# Altium integrated library Microcontroller V2.1 BVI.IntLib: 46 symbols
Pins are listed as number, name and electrical type; pins without a type are passive.

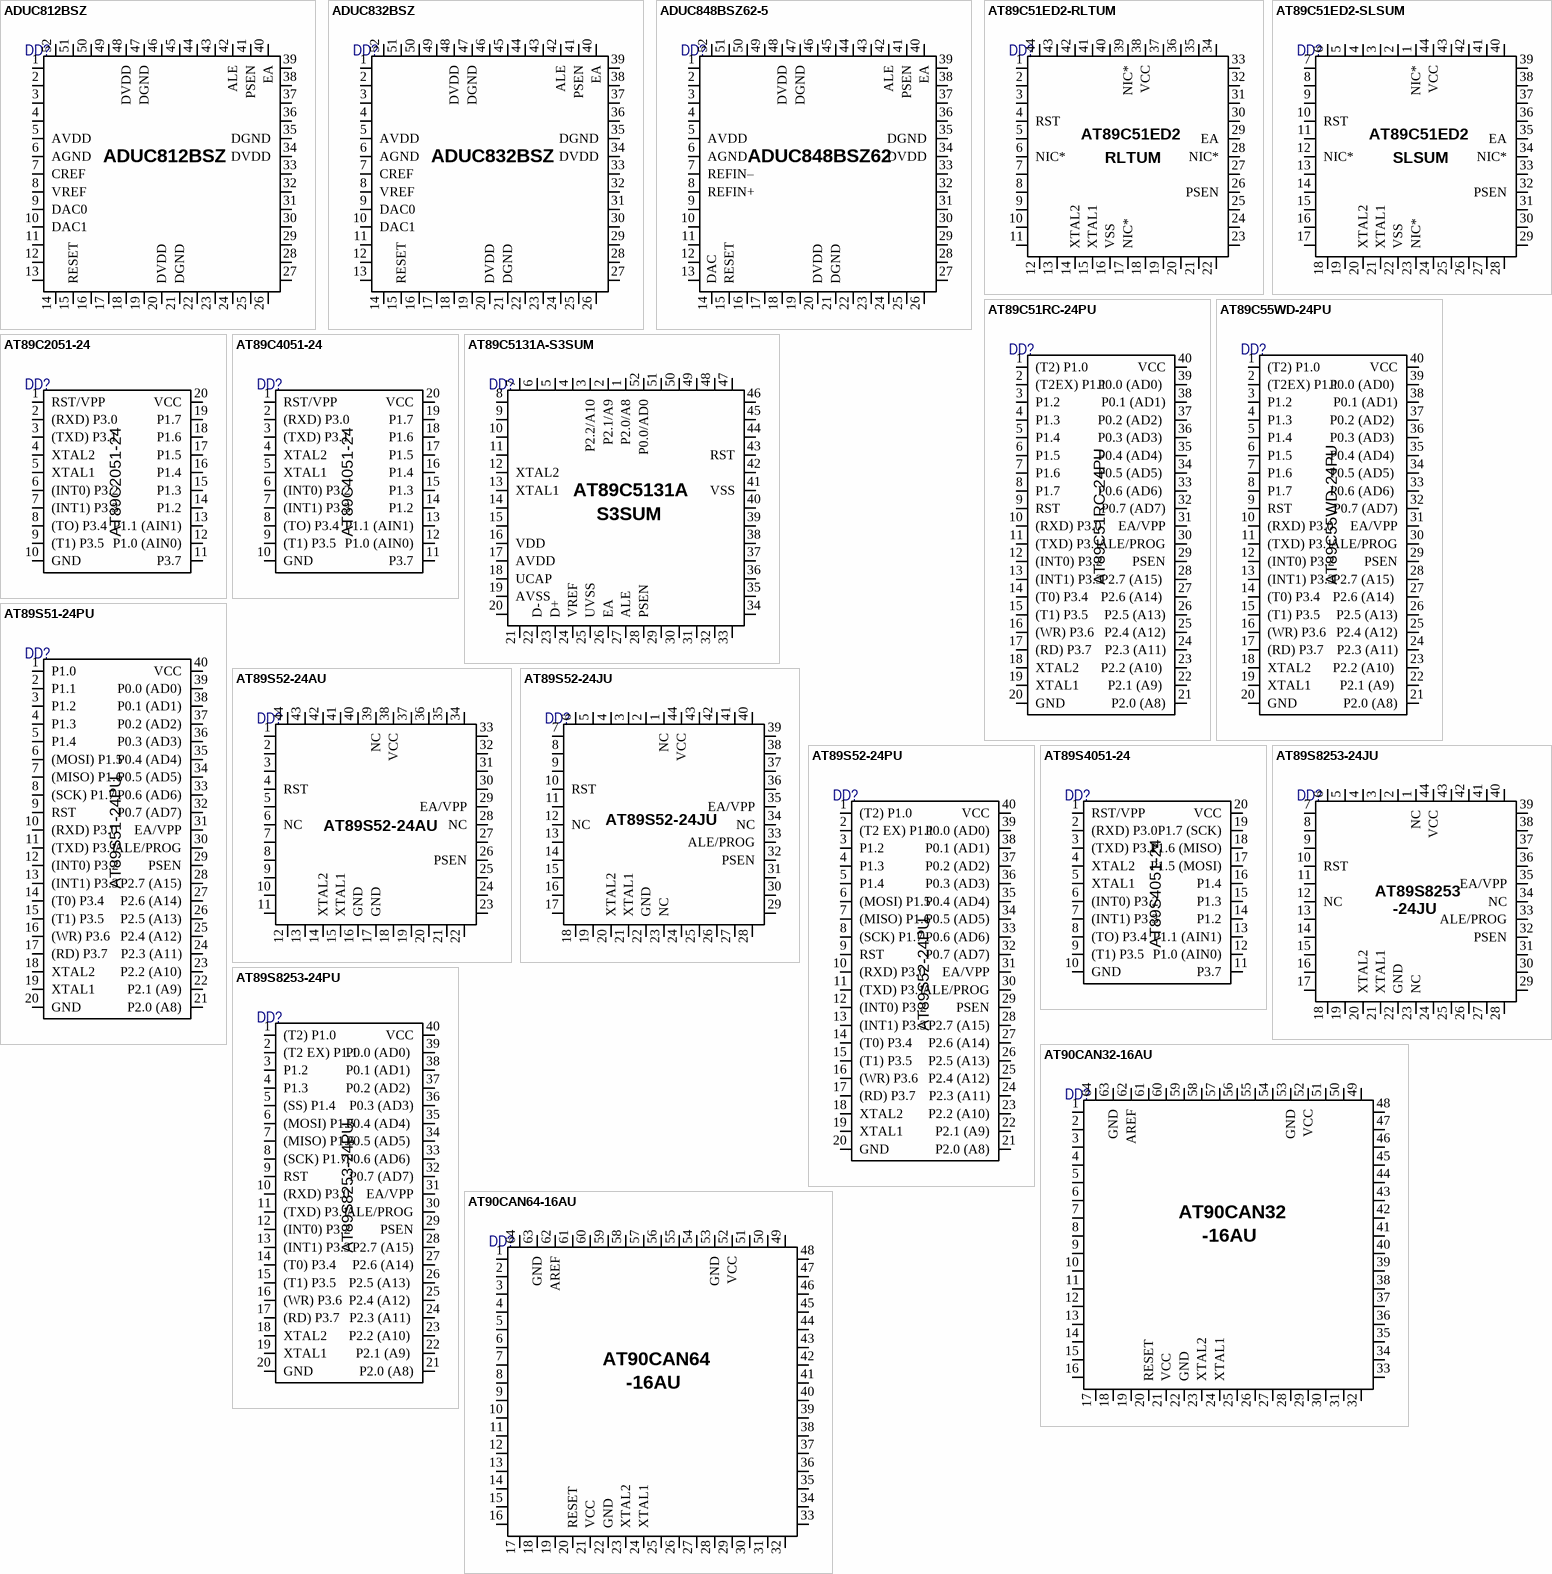
[diagram p0: symbols ADUC812BSZ to AT90CAN64-16AU]

## ADUC812BSZ
designator DD?  (value not drawn)
Микроконвертер   12-Bit ADC   8-bit ADuC8xx 8052 CISC 8KB Flash 3.3V/5V [MQFP-52]
footprint MQFP-52
pins: 1 P1.0/ADC0/T2 "*", 2 P1.1/ADC1/T2EX "*", 3 P1.2/ADC2 "*", 4 P1.3/ADC3 "*", 5 AVDD "*", 6 AGND "*", 7 CREF "*", 8 VREF "*", 9 DAC0 "*", 10 DAC1 "*", 11 P1.4/ADC4 "*", 12 P1.5/ADC5/SS "*", 13 P1.6/ADC6 "*", 14 P1.7/ADC7 "*", 15 RESET "*", 16 P3.0/RxD "*", 17 P3.1/TxD "*", 18 P3.2/INT0 "*", 19 P3.3/INT1/MISO "*", 20 DVDD "*", 21 DGND "*", 22 P3.4/T0 "*", 23 P3.5/T1/CONVST "*", 24 P3.6/WR "*", 25 P3.7/RD "*", 26 SCLOCK/D0  "*", 27 SDATA/MOSI "*", 28 P2.0/A8/A16 "*", 29 P2.1/A9/A17 "*", 30 P2.2/A10/A18 "*", 31 P2.3/A11/A19 "*", 32 XTAL1 "*", 33 XTAL2 "*", 34 DVDD "*", 35 DGND "*", 36 P2.4/A12/A20 "*", 37 P2.5/A13/A21 "*", 38 P2.6/A14/A22 "*", 39 P2.7/A15/A23 "*", 40 EA "*", 41 PSEN "*", 42 ALE "*", 43 P0.0/AD0 "*", 44 P0.1/AD1 "*", 45 P0.2/AD2 "*", 46 P0.3/AD3 "*", 47 DGND "*", 48 DVDD "*", 49 P0.4/AD4 "*", 50 P0.5/AD5 "*", 51 P0.6/AD6 "*", 52 P0.7/AD7 "*"

## ADUC832BSZ
designator DD?  (value not drawn)
Микроконвертер   12-Bit ADCs and DACs   8-bit ADuC8xx 8052 CISC 62KB Flash 3.3V/5V [MQFP-52]
footprint MQFP-52
pins: 1 P1.0/ADC0/T2 "*", 2 P1.1/ADC1/T2EX "*", 3 P1.2/ADC2 "*", 4 P1.3/ADC3 "*", 5 AVDD "*", 6 AGND "*", 7 CREF "*", 8 VREF "*", 9 DAC0 "*", 10 DAC1 "*", 11 P1.4/ADC4 "*", 12 P1.5/ADC5/SS "*", 13 P1.6/ADC6 "*", 14 P1.7/ADC7 "*", 15 RESET "*", 16 P3.0/RxD "*", 17 P3.1/TxD "*", 18 P3.2/INT0 "*", 19 P3.3/INT1/MISO/PWM1 "*", 20 DVDD "*", 21 DGND "*", 22 P3.4/T0/PWMC/PWM0/EXTCLK "*", 23 P3.5/T1/CONVST "*", 24 P3.6/WR "*", 25 P3.7/RD "*", 26 SCLOCK "*", 27 SDATA/MOSI "*", 28 P2.0/A8/A16 "*", 29 P2.1/A9/A17 "*", 30 P2.2/A10/A18 "*", 31 P2.3/A11/A19 "*", 32 XTAL1 "*", 33 XTAL2 "*", 34 DVDD "*", 35 DGND "*", 36 P2.4/A12/A20 "*", 37 P2.5/A13/A21 "*", 38 P2.6/PWM0/A14/A22 "*", 39 P2.7/PWM1/A15/A23 "*", 40 EA "*", 41 PSEN "*", 42 ALE "*", 43 P0.0/AD0 "*", 44 P0.1/AD1 "*", 45 P0.2/AD2 "*", 46 P0.3/AD3 "*", 47 DGND "*", 48 DVDD "*", 49 P0.4/AD4 "*", 50 P0.5/AD5 "*", 51 P0.6/AD6 "*", 52 P0.7/AD7 "*"

## ADUC848BSZ62-5
designator DD?  (value not drawn)
Мультиканальный 16-бит АЦП с встроенной 62 kB Flash и Single-Cycle MCU [MQFP-52]
footprint MQFP-52
pins: 1 P1.0/AIN1 "*", 2 P1.1/AIN2 "*", 3 P1.2/AIN3/REFIN2+ "*", 4 P1.3/AIN4/REFIN2– "*", 5 AVDD "*", 6 AGND "*", 7 REFIN– "*", 8 REFIN+ "*", 9 P1.4/AIN5 "*", 10 P1.5/AIN6 "*", 11 P1.6/AIN7/IEXC1 "*", 12 P1.7/AIN8/IEXC2 "*", 13 AINCOM/DAC  "*", 14 DAC "*", 15 RESET "*", 16 P3.0/RxD "*", 17 P3.1/TxD "*", 18 P3.2/INT0 "*", 19 P3.3/INT1 "*", 20 DVDD "*", 21 DGND "*", 22 P3.4/T0 "*", 23 P3.5/T1 "*", 24 P3.6/WR "*", 25 P3.7/RD "*", 26 SCLOCK (I2C) "*", 27 SDATA "*", 28 P2.0/SCLOCK (SPI) "*", 29 P2.1/MOSI "*", 30 P2.2/MISO "*", 31 P2.3/SS/T2 "*", 32 XTAL1 "*", 33 XTAL2 "*", 34 DVDD "*", 35 DGND "*", 36 P2.4/T2EX "*", 37 P2.5/PWM0 "*", 38 P2.6/PWM1 "*", 39 P2.7/PWMCLK "*", 40 EA "*", 41 PSEN "*", 42 ALE "*", 43 P0.0/AD0 "*", 44 P0.1/AD1 "*", 45 P0.2/AD2 "*", 46 P0.3/AD3 "*", 47 DGND "*", 48 DVDD "*", 49 P0.4/AD4 "*", 50 P0.5/AD5 "*", 51 P0.6/AD6 "*", 52 P0.7/AD7 "*"
text: ADUC848BSZ62

## AT89C51ED2-RLTUM
designator DD?  (value not drawn)
Микроконтроллер 8-Бит   8051   60МГц   64КБ Flash [VQFP-44]
footprint VQFP-44
pins: 1 P1.5/CEX2/MISO "*", 2 P1.6/CEX3/SCK "*", 3 P1.7/CEX4/MOSI "*", 4 RST "*", 5 P3.0/RxD "*", 6 NIC* "*", 7 P3.1/TxD "*", 8 P3.2/INT0 "*", 9 P3.3/INT1 "*", 10 P3.4/T0 "*", 11 P3.5/T1 "*", 12 P3.6/WR "*", 13 P3.7/RD "*", 14 XTAL2 "*", 15 XTAL1 "*", 16 VSS "*", 17 NIC* "*", 18 P2.0/A8 "*", 19 P2.1/A9 "*", 20 P2.2/A10 "*", 21 P2.3/A11 "*", 22 P2.4/A12 "*", 23 P2.5/A13 "*", 24 P2.6/A14 "*", 25 P2.7/A15  "*", 26 PSEN "*", 27 ALE/PROG "*", 28 NIC* "*", 29 EA "*", 30 P0.7/AD7  "*", 31 P0.6/AD6 "*", 32 P0.5/AD5 "*", 33 P0.4/AD4 "*", 34 P0.3/AD3 "*", 35 P0.2/AD2 "*", 36 P0.1/AD1 "*", 37 P0.0/AD0 "*", 38 VCC "*", 39 NIC* "*", 40 P1.0/T2 "*", 41 P1.1/T2EX/SS "*", 42 P1.2/ECI "*", 43 P1.3/CEX0 "*", 44 P1.4/CEX1 "*"
text: AT89C51ED2; RLTUM

## AT89C51ED2-SLSUM
designator DD?  (value not drawn)
Микроконтроллер 8-Бит   8051   60МГц   64КБ Flash [PLCC-44]
footprint PLCC-44
pins: 1 NIC* "*", 2 P1.0/T2 "*", 3 P1.1/T2EX/SS "*", 4 P1.2/ECI "*", 5 P1.3/CEX0 "*", 6 P1.4/CEX1 "*", 7 P1.5/CEX2/MISO "*", 8 P1.6/CEX3/SCK "*", 9 P1.7/CEx4/MOS "*", 10 RST "*", 11 P3.0/RxD "*", 12 NIC* "*", 13 P3.1/TxD "*", 14 P3.2/INT0 "*", 15 P3.3/INT1 "*", 16 P3.4/T0 "*", 17 P3.5/T1 "*", 18 P3.6/WR "*", 19 P3.7/RD "*", 20 XTAL2 "*", 21 XTAL1 "*", 22 VSS "*", 23 NIC* "*", 24 P2.0/A8 "*", 25 P2.1/A9 "*", 26 P2.2/A10 "*", 27 P2.3/A11 "*", 28 P2.4/A12 "*", 29 P2.5/A13  "*", 30 P2.6/A14  "*", 31 P2.7/A15  "*", 32 PSEN "*", 33 ALE/PROG "*", 34 NIC* "*", 35 EA "*", 36 P0.7/AD7  "*", 37 P0.6/AD6 "*", 38 P0.5/AD5  "*", 39 P0.4/AD4  "*", 40 P0.3/AD3 "*", 41 P0.2/AD2 "*", 42 P0.1/AD1 "*", 43 P0.0/AD0 "*", 44 VCC "*"
text: AT89C51ED2; SLSUM

## AT89C51RC-24PU
designator DD?  (value not drawn)
Микроконтроллер 8-Бит   8051   24МГц   32КБ Flash [DIP-40]
footprint DIP-40  (600)
pins: 1 (T2) P1.0 "*", 2 (T2EX) P1.1 "*", 3 P1.2 "*", 4 P1.3 "*", 5 P1.4 "*", 6 P1.5 "*", 7 P1.6 "*", 8 P1.7 "*", 9 RST "*", 10 (RXD) P3.0 "*", 11 (TXD) P3.1 "*", 12 (INT0) P3.2 "*", 13 (INT1) P3.3 "*", 14 (T0) P3.4 "*", 15 (T1) P3.5 "*", 16 (WR) P3.6 "*", 17 (RD) P3.7 "*", 18 XTAL2 "*", 19 XTAL1  "*", 20 GND "*", 21 P2.0 (A8) "*", 22 P2.1 (A9)  "*", 23 P2.2 (A10)  "*", 24 P2.3 (A11) "*", 25 P2.4 (A12) "*", 26 P2.5 (A13) "*", 27 P2.6 (A14)  "*", 28 P2.7 (A15)  "*", 29 PSEN "*", 30 ALE/PROG "*", 31 EA/VPP "*", 32 P0.7 (AD7) "*", 33 P0.6 (AD6)  "*", 34 P0.5 (AD5)  "*", 35 P0.4 (AD4)  "*", 36 P0.3 (AD3)  "*", 37 P0.2 (AD2)  "*", 38 P0.1 (AD1) "*", 39 P0.0 (AD0)  "*", 40 VCC "*"

## AT89C55WD-24PU
designator DD?  (value not drawn)
Микроконтроллер 8-Бит   8051   24МГц   20КБ Flash [DIP-40]
footprint DIP-40  (600)
pins: 1 (T2) P1.0 "*", 2 (T2EX) P1.1 "*", 3 P1.2 "*", 4 P1.3 "*", 5 P1.4 "*", 6 P1.5 "*", 7 P1.6 "*", 8 P1.7 "*", 9 RST "*", 10 (RXD) P3.0 "*", 11 (TXD) P3.1 "*", 12 (INT0) P3.2 "*", 13 (INT1) P3.3 "*", 14 (T0) P3.4 "*", 15 (T1) P3.5 "*", 16 (WR) P3.6 "*", 17 (RD) P3.7 "*", 18 XTAL2 "*", 19 XTAL1  "*", 20 GND "*", 21 P2.0 (A8) "*", 22 P2.1 (A9)  "*", 23 P2.2 (A10)  "*", 24 P2.3 (A11) "*", 25 P2.4 (A12) "*", 26 P2.5 (A13) "*", 27 P2.6 (A14)  "*", 28 P2.7 (A15)  "*", 29 PSEN "*", 30 ALE/PROG "*", 31 EA/VPP "*", 32 P0.7 (AD7) "*", 33 P0.6 (AD6)  "*", 34 P0.5 (AD5)  "*", 35 P0.4 (AD4)  "*", 36 P0.3 (AD3)  "*", 37 P0.2 (AD2)  "*", 38 P0.1 (AD1) "*", 39 P0.0 (AD0)  "*", 40 VCC "*"

## AT89C2051-24
designator DD?  (value not drawn)
Микроконтроллер 8-Бит   8051   24МГц   2КБ Flash
footprint DIP-20 (300) (PDIP)
footprint SO-20 (300") (SOIC-20 (300"))
pins: 1 RST/VPP "*", 2 (RXD) P3.0 "*", 3 (TXD) P3.1 "*", 4 XTAL2  "*", 5 XTAL1 "*", 6 (INT0) P3.2 "*", 7 (INT1) P3.3 "*", 8 (TO) P3.4 "*", 9 (T1) P3.5 "*", 10 GND "*", 11 P3.7 "*", 12 P1.0 (AIN0) "*", 13 P1.1 (AIN1) "*", 14 P1.2 "*", 15 P1.3 "*", 16 P1.4 "*", 17 P1.5 "*", 18 P1.6 "*", 19 P1.7 "*", 20 VCC "*"

## AT89C4051-24
designator DD?  (value not drawn)
Микроконтроллер 8-Бит   8051   24МГц   4КБ Flash
footprint DIP-20 (300) (PDIP)
footprint SO-20 (300") (SOIC-20 (300"))
pins: 1 RST/VPP "*", 2 (RXD) P3.0 "*", 3 (TXD) P3.1 "*", 4 XTAL2  "*", 5 XTAL1 "*", 6 (INT0) P3.2 "*", 7 (INT1) P3.3 "*", 8 (TO) P3.4 "*", 9 (T1) P3.5 "*", 10 GND "*", 11 P3.7 "*", 12 P1.0 (AIN0) "*", 13 P1.1 (AIN1) "*", 14 P1.2 "*", 15 P1.3 "*", 16 P1.4 "*", 17 P1.5 "*", 18 P1.6 "*", 19 P1.7 "*", 20 VCC "*"

## AT89C5131A-S3SUM
designator DD?  (value not drawn)
Микроконтроллер 8-Бит   80C52X2   48МГц   32КБ Flash [PLCC-52]
footprint PLCC-52
pins: 1 P2.0/A8 "*", 2 P2.1/A9 "*", 3 P2.2/A10 "*", 4 P1.5/CEX2/KIN5/MISO "*", 5 P1.6/CEX3/KIN6/SCK "*", 6 P1.7/CEX4/KIN7/MOSI "*", 7 P4.0/SCL "*", 8 P4.1/SDA "*", 9 P2.3/A11  "*", 10 P2.4/A12 "*", 11 P2.5/A13 "*", 12 XTAL2  "*", 13 XTAL1 "*", 14 P2.6/A14 "*", 15 P2.7/A15 "*", 16 VDD "*", 17 AVDD "*", 18 UCAP "*", 19 AVSS "*", 20 P3.0/RxD "*", 21 PLLF "*", 22 D- "*", 23 D+ "*", 24 VREF "*", 25 UVSS "*", 26 EA "*", 27 ALE "*", 28 PSEN "*", 29 P3.1/TxD "*", 30 P3.2/INT0 "*", 31 P3.3/INT1/LED0 "*", 32 P3.4/T0 "*", 33 P3.5/T1/LED1 "*", 34 NC "*", 35 P3.6/WR/LED2 "*", 36 P0.7/AD7 "*", 37 P0.6/AD6 "*", 38 P0.5/AD5 "*", 39 P3.7/RD/LED3 "*", 40 P0.4/AD4 "*", 41 VSS "*", 42 P0.3/AD3 "*", 43 RST "*", 44 P0.2/AD2 "*", 45 P0.1/AD1 "*", 46 NC "*", 47 P1.0/T2/KIN0 "*", 48 P1.1/T2EX/KIN1/SS "*", 49 P1.2/ECI/KIN2 "*", 50 P1.3/CEX0/KIN3 "*", 51 P1.4/CEX1/KIN4 "*", 52 P0.0/AD0 "*"
text: AT89C5131A; S3SUM

## AT89S51-24PU
designator DD?  (value not drawn)
Микроконтроллер 8-Бит   8051   24МГц   4КБ Flash   [DIP-40]
footprint DIP-40  (600)
pins: 1 P1.0 "*", 2 P1.1 "*", 3 P1.2 "*", 4 P1.3 "*", 5 P1.4 "*", 6 (MOSI) P1.5 "*", 7 (MISO) P1.6 "*", 8 (SCK) P1.7 "*", 9 RST "*", 10 (RXD) P3.0 "*", 11 (TXD) P3.1 "*", 12 (INT0) P3.2 "*", 13 (INT1) P3.3 "*", 14 (T0) P3.4 "*", 15 (T1) P3.5 "*", 16 (WR) P3.6 "*", 17 (RD) P3.7  "*", 18 XTAL2 "*", 19 XTAL1 "*", 20 GND "*", 21 P2.0 (A8) "*", 22 P2.1 (A9) "*", 23 P2.2 (A10) "*", 24 P2.3 (A11) "*", 25 P2.4 (A12) "*", 26 P2.5 (A13) "*", 27 P2.6 (A14) "*", 28 P2.7 (A15) "*", 29 PSEN "*", 30 ALE/PROG "*", 31 EA/VPP "*", 32 P0.7 (AD7) "*", 33 P0.6 (AD6) "*", 34 P0.5 (AD5) "*", 35 P0.4 (AD4) "*", 36 P0.3 (AD3) "*", 37 P0.2 (AD2) "*", 38 P0.1 (AD1) "*", 39 P0.0 (AD0) "*", 40 VCC "*"

## AT89S52-24AU
designator DD?  (value not drawn)
Микроконтроллер 8-Бит   8051   24МГц   8КБ Flash [TQFP-44]
footprint TQFP-44
pins: 1 (MOSI) P1.5 "*", 2 (MISO) P1.6 "*", 3 (SCK) P1.7 "*", 4 RST "*", 5 (RXD) P3.0 "*", 6 NC "*", 7 (TXD) P3.1 "*", 8 (INT0) P3.2 "*", 9 (INT1) P3.3 "*", 10 (T0) P3.4 "*", 11 (T1) P3.5 "*", 12 (WR) P3.6 "*", 13 (RD) P3.7 "*", 14 XTAL2 "*", 15 XTAL1 "*", 16 GND "*", 17 GND "*", 18 (A8) P2.0 "*", 19 (A9) P2.1 "*", 20 (A10) P2.2 "*", 21 (A11) P2.3 "*", 22 (A12) P2.4 "*", 23 P2.5 (A13) "*", 24 P2.6 (A14) "*", 25 P2.7 (A15) "*", 26 PSEN "*", 27 ALE/PROG "*", 28 NC "*", 29 EA/VPP "*", 30 P0.7 (AD7) "*", 31 P0.6 (AD6) "*", 32 P0.5 (AD5) "*", 33 P0.4 (AD4) "*", 34 P0.3 (AD3) "*", 35 P0.2 (AD2) "*", 36 P0.1 (AD1) "*", 37 P0.0 (AD0) "*", 38 VCC "*", 39 NC "*", 40 P1.0 (T2) "*", 41 P1.1 (T2 EX) "*", 42 P1.2 "*", 43 P1.3 "*", 44 P1.4 "*"

## AT89S52-24JU
designator DD?  (value not drawn)
Микроконтроллер 8-Бит   8051   24МГц   8КБ Flash [PLCC-44]
footprint PLCC-44
pins: 1 NC "*", 2 P1.0 (T2) "*", 3 P1.1 (T2 EX) "*", 4 P1.2 "*", 5 P1.3 "*", 6 P1.4 "*", 7 (MOSI) P1.5 "*", 8 (MISO) P1.6 "*", 9 (SCK) P1.7 "*", 10 RST "*", 11 (RXD) P3.0 "*", 12 NC "*", 13 (TXD) P3.1 "*", 14 (INT0) P3.2 "*", 15 (INT1) P3.3 "*", 16 (T0) P3.4 "*", 17 (T1) P3.5 "*", 18 (WR) P3.6 "*", 19 (RD) P3.7 "*", 20 XTAL2 "*", 21 XTAL1 "*", 22 GND "*", 23 NC "*", 24 (A8) P2.0 "*", 25 (A9) P2.1 "*", 26 (A10) P2.2 "*", 27 (A11) P2.3 "*", 28 (A12) P2.4 "*", 29 P2.5 (A13) "*", 30 P2.6 (A14) "*", 31 P2.7 (A15) "*", 32 PSEN "*", 33 ALE/PROG "*", 34 NC "*", 35 EA/VPP "*", 36 P0.7 (AD7) "*", 37 P0.6 (AD6) "*", 38 P0.5 (AD5) "*", 39 P0.4 (AD4) "*", 40 P0.3 (AD3) "*", 41 P0.2 (AD2) "*", 42 P0.1 (AD1) "*", 43 P0.0 (AD0) "*", 44 VCC "*"

## AT89S52-24PU
designator DD?  (value not drawn)
Микроконтроллер 8-Бит   8051   24МГц   8КБ Flash [DIP-40]
footprint DIP-40  (600)
pins: 1 (T2) P1.0 "*", 2 (T2 EX) P1.1 "*", 3 P1.2 "*", 4 P1.3 "*", 5 P1.4 "*", 6 (MOSI) P1.5 "*", 7 (MISO) P1.6 "*", 8 (SCK) P1.7 "*", 9 RST "*", 10 (RXD) P3.0 "*", 11 (TXD) P3.1  "*", 12 (INT0) P3.2 "*", 13 (INT1) P3.3 "*", 14 (T0) P3.4 "*", 15 (T1) P3.5 "*", 16 (WR) P3.6 "*", 17 (RD) P3.7 "*", 18 XTAL2 "*", 19 XTAL1  "*", 20 GND "*", 21 P2.0 (A8) "*", 22 P2.1 (A9) "*", 23 P2.2 (A10) "*", 24 P2.3 (A11) "*", 25 P2.4 (A12) "*", 26 P2.5 (A13) "*", 27 P2.6 (A14) "*", 28 P2.7 (A15) "*", 29 PSEN "*", 30 ALE/PROG "*", 31 EA/VPP "*", 32 P0.7 (AD7) "*", 33 P0.6 (AD6) "*", 34 P0.5 (AD5) "*", 35 P0.4 (AD4) "*", 36 P0.3 (AD3) "*", 37 P0.2 (AD2) "*", 38 P0.1 (AD1) "*", 39 P0.0 (AD0) "*", 40 VCC "*"

## AT89S4051-24
designator DD?  (value not drawn)
Микроконтроллер 8-Бит   8051   24МГц   4КБ Flash
footprint DIP-20 (300) (PDIP)
footprint SO-20 (300") (SOIC-20 (300"))
pins: 1 RST/VPP "*", 2 (RXD) P3.0 "*", 3 (TXD) P3.1 "*", 4 XTAL2  "*", 5 XTAL1 "*", 6 (INT0) P3.2 "*", 7 (INT1) P3.3 "*", 8 (TO) P3.4 "*", 9 (T1) P3.5 "*", 10 GND "*", 11 P3.7 "*", 12 P1.0 (AIN0) "*", 13 P1.1 (AIN1) "*", 14 P1.2 "*", 15 P1.3 "*", 16 P1.4 "*", 17 P1.5 (MOSI) "*", 18 P1.6 (MISO) "*", 19 P1.7 (SCK) "*", 20 VCC "*"

## AT89S8253-24JU
designator DD?  (value not drawn)
Микроконтроллер 8-Бит   8051   24МГц   12КБ Flash [PLCC-44]
footprint PLCC-44
pins: 1 NC "*", 2 P1.0 (T2) "*", 3 P1.1 (T2 EX) "*", 4 P1.2 "*", 5 P1.3 "*", 6 P1.4 (SS) "*", 7 (MOSI) P1.5 "*", 8 (MISO) P1.6 "*", 9 (SCK) P1.7  "*", 10 RST "*", 11 (RXD) P3.0 "*", 12 NC "*", 13 (TXD) P3.1 "*", 14 (INT0) P3.2 "*", 15 (INT1) P3.3 "*", 16 (T0) P3.4 "*", 17 (T1) P3.5 "*", 18 (WR) P3.6 "*", 19 (RD) P3.7 "*", 20 XTAL2 "*", 21 XTAL1 "*", 22 GND "*", 23 NC "*", 24 (A8) P2.0 "*", 25 (A9) P2.1 "*", 26 (A10) P2.2 "*", 27 (A11) P2.3 "*", 28 (A12) P2.4 "*", 29 P2.5 (A13) "*", 30 P2.6 (A14) "*", 31 P2.7 (A15) "*", 32 PSEN "*", 33 ALE/PROG "*", 34 NC "*", 35 EA/VPP "*", 36 P0.7 (AD7) "*", 37 P0.6 (AD6) "*", 38 P0.5 (AD5) "*", 39 P0.4 (AD4) "*", 40 P0.3 (AD3)  "*", 41 P0.2 (AD2) "*", 42 P0.1 (AD1) "*", 43 P0.0 (AD0) "*", 44 VCC "*"
text: AT89S8253; -24JU

## AT89S8253-24PU
designator DD?  (value not drawn)
Микроконтроллер 8-Бит   8051   24МГц   12КБ Flash [DIP-40]
footprint DIP-40  (600)
pins: 1 (T2) P1.0 "*", 2 (T2 EX) P1.1  "*", 3 P1.2 "*", 4 P1.3 "*", 5 (SS) P1.4 "*", 6 (MOSI) P1.5  "*", 7 (MISO) P1.6 "*", 8 (SCK) P1.7 "*", 9 RST "*", 10 (RXD) P3.0 "*", 11 (TXD) P3.1 "*", 12 (INT0) P3.2 "*", 13 (INT1) P3.3 "*", 14 (T0) P3.4 "*", 15 (T1) P3.5 "*", 16 (WR) P3.6 "*", 17 (RD) P3.7 "*", 18 XTAL2 "*", 19 XTAL1 "*", 20 GND "*", 21 P2.0 (A8) "*", 22 P2.1 (A9)  "*", 23 P2.2 (A10)  "*", 24 P2.3 (A11)  "*", 25 P2.4 (A12)  "*", 26 P2.5 (A13)  "*", 27 P2.6 (A14) "*", 28 P2.7 (A15) "*", 29 PSEN "*", 30 ALE/PROG "*", 31 EA/VPP "*", 32 P0.7 (AD7) "*", 33 P0.6 (AD6)  "*", 34 P0.5 (AD5)  "*", 35 P0.4 (AD4)  "*", 36 P0.3 (AD3) "*", 37 P0.2 (AD2)  "*", 38 P0.1 (AD1)  "*", 39 P0.0 (AD0)  "*", 40 VCC "*"

## AT90CAN32-16AU
designator DD?  (value not drawn)
Микроконтроллер 8-Бит   AVR   16МГц   32КБ Flash   с CAN контроллером [TQFP-64]
footprint TQFP-64
pins: 1 NC "*", 2 (RXD0 / PDI) PE0 "*", 3 (TXD0 / PDO) PE1 "*", 4 (XCK0 / AIN0) PE2 "*", 5 (OC3A / AIN1) PE3 "*", 6 (OC3B / INT4) PE4 "*", 7 (OC3C / INT5) PE5 "*", 8 (T3 / INT6) PE6 "*", 9 (ICP3 / INT7) PE7  "*", 10 (SS) PB0  "*", 11 (SCK) PB1  "*", 12 (MOSI) PB2 "*", 13 (MISO) PB3 "*", 14 (OC2A) PB4 "*", 15 (OC1A) PB5 "*", 16 (OC1B) PB6 "*", 17 (OC0A / OC1C) PB7 "*", 18 (TOSC2 ) PG3 "*", 19 (TOSC1 ) PG4 "*", 20 RESET "*", 21 VCC "*", 22 GND "*", 23 XTAL2 "*", 24 XTAL1 "*", 25 (SCL / INT0) PD0 "*", 26 (SDA / INT1) PD1 "*", 27 (RXD1 / INT2) PD2 "*", 28 (TXD1 / INT3) PD3 "*", 29  (ICP1) PD4 "*", 30 (TXCAN / XCK1) PD5 "*", 31 (RXCAN / T1) PD6 "*", 32 (T0) PD7 "*", 33 PG0 (WR) "*", 34 PG1 (RD) "*", 35 PC0 (A8) "*", 36 PC1 (A9) "*", 37 PC2 (A10) "*", 38 PC3 (A11) "*", 39 PC4 (A12) "*", 40 PC5 (A13) "*", 41 PC6 (A14) "*", 42 PC7 (A15 / CLKO) "*", 43 PG2 (ALE) "*", 44 PA7 (AD7) "*", 45 PA6 (AD6) "*", 46 PA5 (AD5) "*", 47 PA4 (AD4) "*", 48 PA3 (AD3) "*", 49 PA2 (AD2) "*", 50 PA1 (AD1) "*", 51 PA0 (AD0) "*", 52 VCC "*", 53 GND "*", 54 PF7 (ADC7 / TDI) "*", 55 PF6 (ADC6 / TDO) "*", 56 PF5 (ADC5 / TMS) "*", 57 PF4 (ADC4 / TCK) "*", 58 PF3 (ADC3) "*", 59 PF2 (ADC2) "*", 60 PF1 (ADC1) "*", 61 PF0 (ADC0) "*", 62 AREF "*", 63 GND "*", 64 AVCC "*"
text: AT90CAN32; -16AU

## AT90CAN64-16AU
designator DD?  (value not drawn)
Микроконтроллер 8-Бит   AVR   16МГц     64КБ Flash   с  CAN контроллером [TQFP-64]
footprint TQFP-64
pins: 1 NC "*", 2 (RXD0 / PDI) PE0 "*", 3 (TXD0 / PDO) PE1  "*", 4 (XCK0 / AIN0) PE2  "*", 5 (OC3A / AIN1) PE3 "*", 6 (OC3B / INT4) PE4  "*", 7  (OC3C / INT5) PE5 "*", 8 (T3 / INT6) PE6 "*", 9 (ICP3 / INT7) PE7 "*", 10 (SS) PB0 "*", 11 (SCK) PB1 "*", 12 (MOSI) PB2 "*", 13 (MISO) PB3 "*", 14 (OC2A) PB4 "*", 15 (OC1A) PB5 "*", 16 (OC1B) PB6 "*", 17  (OC0A / OC1C) PB7 "*", 18 (TOSC2 ) PG3 "*", 19 (TOSC1 ) PG4  "*", 20 RESET "*", 21 VCC "*", 22 GND "*", 23 XTAL2 "*", 24 XTAL1 "*", 25 (SCL / INT0) PD0 "*", 26 (SDA / INT1) PD1 "*", 27 (RXD1 / INT2) PD2 "*", 28 (TXD1 / INT3) PD3 "*", 29 (ICP1) PD4 "*", 30 (TXCAN / XCK1) PD5 "*", 31 (RXCAN / T1) PD6 "*", 32 (T0) PD7 "*", 33 PG0 (WR) "*", 34 PG1 (RD) "*", 35 PC0 (A8)  "*", 36 PC1 (A9) "*", 37 PC2 (A10) "*", 38 PC3 (A11) "*", 39 PC4 (A12) "*", 40 PC5 (A13) "*", 41 PC6 (A14) "*", 42 PC7 (A15 / CLKO) "*", 43 PG2 (ALE) "*", 44 PA7 (AD7) "*", 45 PA6 (AD6) "*", 46 PA5 (AD5) "*", 47 PA4 (AD4) "*", 48 PA3 (AD3) "*", 49 PA2 (AD2) "*", 50 PA1 (AD1) "*", 51 PA0 (AD0) "*", 52 VCC "*", 53 GND "*", 54 PF7 (ADC7 / TDI) "*", 55 PF6 (ADC6 / TDO) "*", 56 PF5 (ADC5 / TMS) "*", 57 PF4 (ADC4 / TCK) "*", 58 PF3 (ADC3) "*", 59 PF2 (ADC2) "*", 60 PF1 (ADC1) "*", 61 PF0 (ADC0) "*", 62 AREF "*", 63 GND "*", 64 AVCC "*"
text: AT90CAN64; -16AU

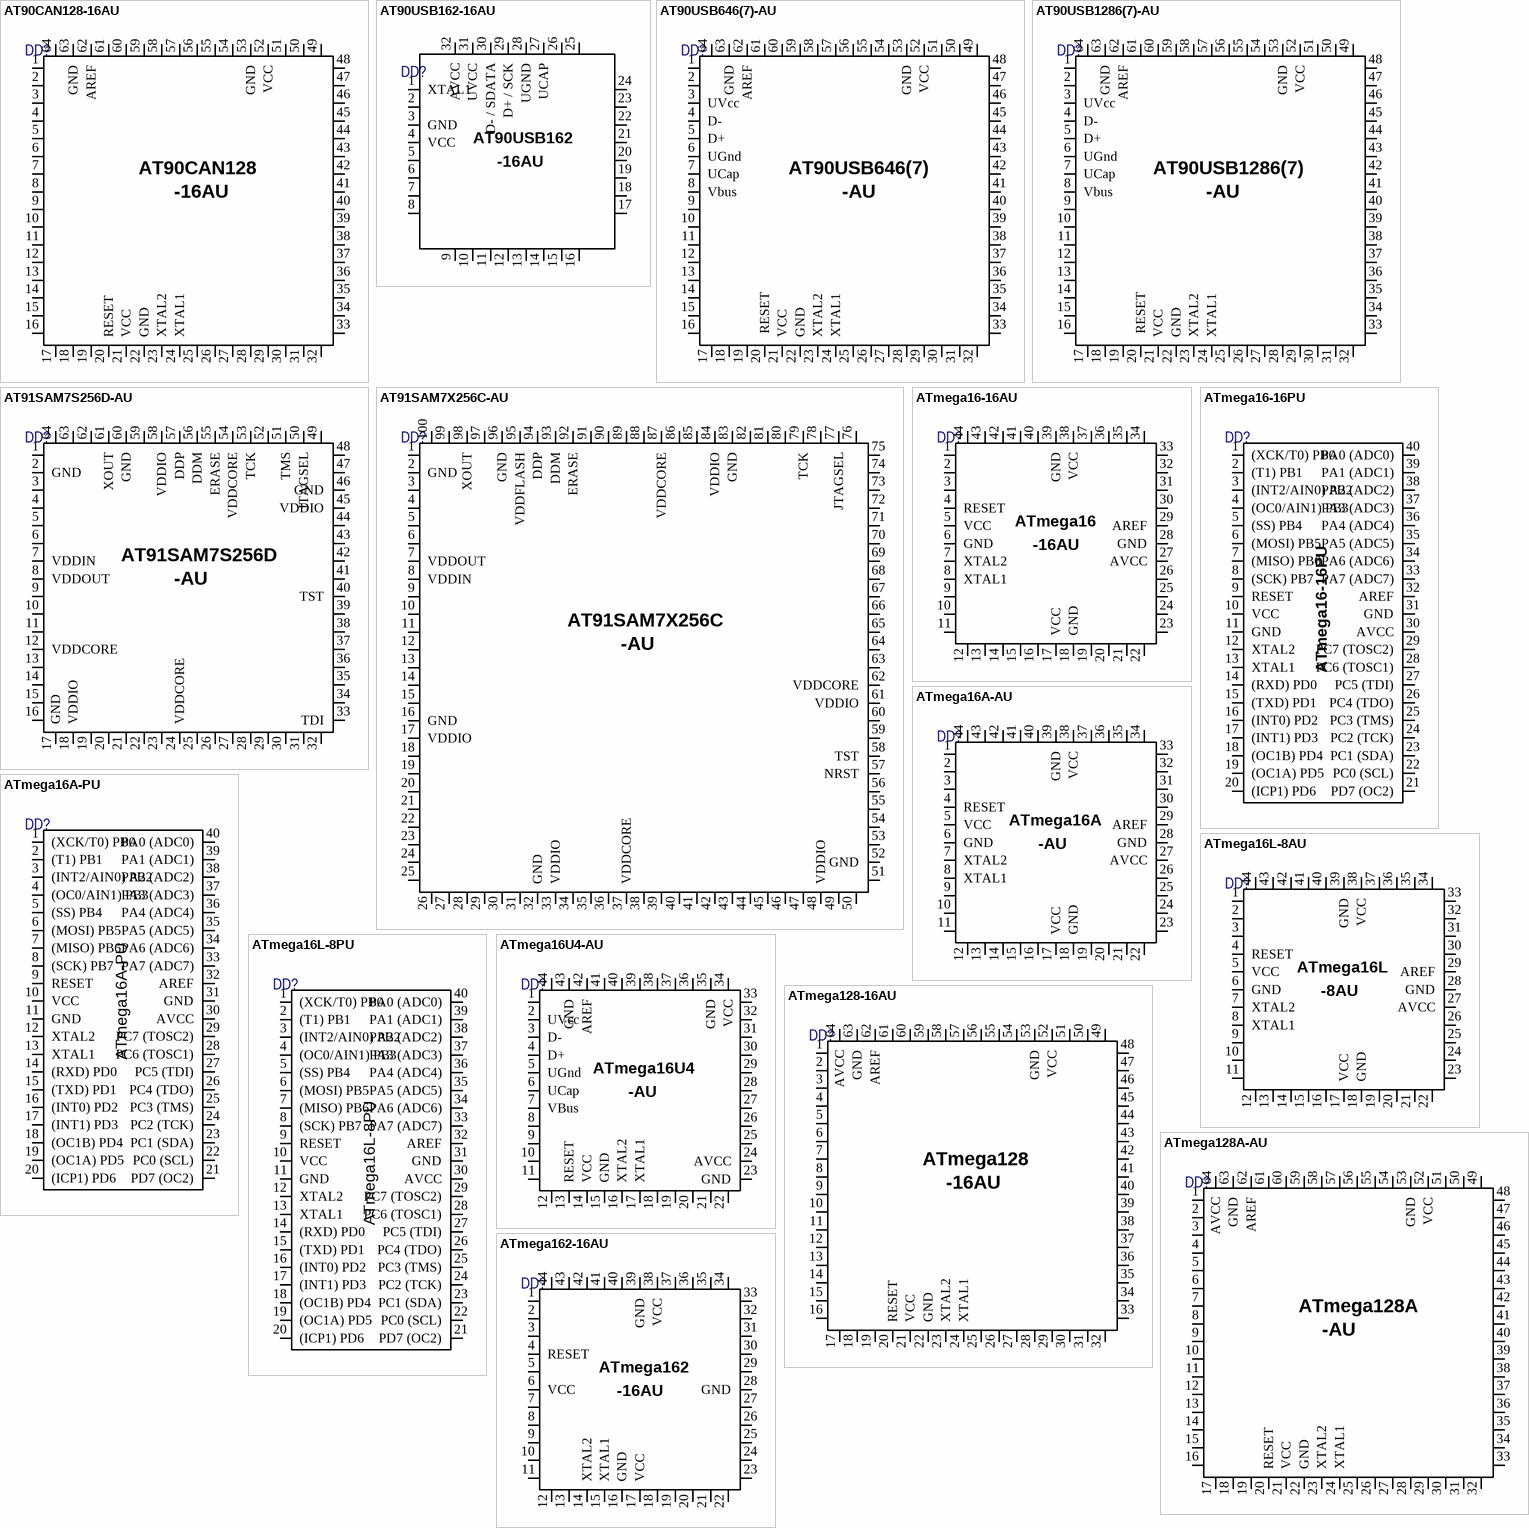
[diagram p1: symbols AT90CAN128-16AU to ATmega162-16AU]

## AT90CAN128-16AU
designator DD?  (value not drawn)
Микроконтроллер 8-Бит   AVR   16МГц   128КБ Flash   с CAN контроллером [TQFP-64]
footprint TQFP-64
pins: 1 NC "*", 2 (RXD0 / PDI) PE0 "*", 3 (TXD0 / PDO) PE1  "*", 4 (XCK0 / AIN0) PE2  "*", 5 (OC3A / AIN1) PE3 "*", 6 (OC3B / INT4) PE4  "*", 7  (OC3C / INT5) PE5 "*", 8 (T3 / INT6) PE6 "*", 9 (ICP3 / INT7) PE7 "*", 10 (SS) PB0 "*", 11 (SCK) PB1 "*", 12 (MOSI) PB2 "*", 13 (MISO) PB3 "*", 14 (OC2A) PB4 "*", 15 (OC1A) PB5 "*", 16 (OC1B) PB6 "*", 17  (OC0A / OC1C) PB7 "*", 18 (TOSC2 ) PG3 "*", 19 (TOSC1 ) PG4  "*", 20 RESET "*", 21 VCC "*", 22 GND "*", 23 XTAL2 "*", 24 XTAL1 "*", 25 (SCL / INT0) PD0 "*", 26 (SDA / INT1) PD1 "*", 27 (RXD1 / INT2) PD2 "*", 28 (TXD1 / INT3) PD3 "*", 29 (ICP1) PD4 "*", 30 (TXCAN / XCK1) PD5 "*", 31 (RXCAN / T1) PD6 "*", 32 (T0) PD7 "*", 33 PG0 (WR) "*", 34 PG1 (RD) "*", 35 PC0 (A8)  "*", 36 PC1 (A9) "*", 37 PC2 (A10) "*", 38 PC3 (A11) "*", 39 PC4 (A12) "*", 40 PC5 (A13) "*", 41 PC6 (A14) "*", 42 PC7 (A15 / CLKO) "*", 43 PG2 (ALE) "*", 44 PA7 (AD7) "*", 45 PA6 (AD6) "*", 46 PA5 (AD5) "*", 47 PA4 (AD4) "*", 48 PA3 (AD3) "*", 49 PA2 (AD2) "*", 50 PA1 (AD1) "*", 51 PA0 (AD0) "*", 52 VCC "*", 53 GND "*", 54 PF7 (ADC7 / TDI) "*", 55 PF6 (ADC6 / TDO) "*", 56 PF5 (ADC5 / TMS) "*", 57 PF4 (ADC4 / TCK) "*", 58 PF3 (ADC3) "*", 59 PF2 (ADC2) "*", 60 PF1 (ADC1) "*", 61 PF0 (ADC0) "*", 62 AREF "*", 63 GND "*", 64 AVCC "*"
text: AT90CAN128; -16AU

## AT90USB162-16AU
designator DD?  (value not drawn)
Микроконтроллер 8-Бит   AVR   16МГц   16КБ Flash   с USB контроллером [TQFP-32]
footprint TQFP-32
pins: 1 XTAL1 "*", 2 (PC0) XTAL2 "*", 3 GND "*", 4 VCC "*", 5 (PCINT11) PC2 "*", 6 (OC.0B / INT0) PD0 "*", 7 (AIN0 / INT1) PD1 "*", 8 (RXD1 / AIN1 / INT2) PD2 "*", 9 (TXD1 / INT3) PD3 "*", 10 (INT5) PD4 "*", 11 (XCK / PCINT12) PD5 "*", 12 (RTS / INT6) PD6 "*", 13 (CTS / HWB / T0 / INT7) PD7 "*", 14 (SS / PCINT0) PB0 "*", 15 (SCLK / PCINT1) PB1 "*", 16 (PDI / MOSI / PCINT2) PB2 "*", 17 PB3 (PDO / MISO / PCINT3) "*", 18 PB4 (T1 / PCINT4) "*", 19 PB5 (PCINT5) "*", 20 PB6 (PCINT6) "*", 21 PB7 (PCINT7 / OC.0A / OC.1C) "*", 22 PC7 (INT4 / ICP1 / CLKO) "*", 23 PC6 (OC.1A / PCINT8) "*", 24 Reset (PC1 / dW) "*", 25 PC5 ( PCINT9/ OC.1B) "*", 26 PC4 (PCINT10) "*", 27 UCAP "*", 28 UGND "*", 29 D+ / SCK "*", 30 D- / SDATA "*", 31 UVCC "*", 32 AVCC "*"
text: AT90USB162; -16AU

## AT90USB646(7)-AU
designator DD?  (value not drawn)
Микроконтроллер 8-Бит   AVR   16МГц   64КБ Flash   с USB контроллером [TQFP-64]
footprint TQFP-64
pins: 1 (INT.6/AIN.0) PE6 "*", 2 (INT.7/AIN.1/UVcon) PE7  "*", 3 UVcc "*", 4 D- "*", 5 D+ "*", 6 UGnd "*", 7 UCap "*", 8 Vbus "*", 9 (IUID) PE3 "*", 10 (SS/PCINT0) PB0 "*", 11 (PCINT1/SCLK) PB1 "*", 12 (PDI/PCINT2/MOSI) PB2 "*", 13 (PDO/PCINT3/MISO) PB3 "*", 14 (PCINT4/OC.2A) PB4 "*", 15 (PCINT5/OC.1A) PB5 "*", 16 (PCINT6/OC.1B) PB6 "*", 17 (PCINT7/OC.0A/OC.1C) PB7 "*", 18 (INT4/TOSC1) PE4 "*", 19 (INT.5/TOSC2) PE5 "*", 20  RESET "*", 21 VCC "*", 22 GND "*", 23 XTAL2 "*", 24 XTAL1 "*", 25 (OC0B/SCL/INT0) PD0 "*", 26 (OC2B/SDA/INT1) PD1 "*", 27 (RXD1/INT2) PD2 "*", 28 (TXD1/INT3) PD3 "*", 29 (ICP1) PD4  "*", 30 (XCK1) PD5 "*", 31 (T1) PD6 "*", 32 (T0) PD7 "*", 33 PE0 (WR) "*", 34 PE1 (RD) "*", 35 PC0 (A8) "*", 36 PC1 (A9) "*", 37 PC2 (A10) "*", 38 PC3 (A11/T.3) "*", 39 PC4 (A12/OC.3C) "*", 40 PC5 (A13/OC.3B) "*", 41 PC6 (A14/OC.3A) "*", 42 PC7 (A15/IC.3/CLKO) "*", 43 PE2 (ALE/HWB) "*", 44 PA7 (AD7) "*", 45 PA6 (AD6) "*", 46 PA5 (AD5) "*", 47 PA4 (AD4) "*", 48 PA3 (AD3) "*", 49 PA2 (AD2) "*", 50 PA1 (AD1) "*", 51 PA0 (AD0) "*", 52 VCC "*", 53 GND "*", 54 PF7 (ADC7/TDI) "*", 55 PF6 (ADC6/TDO) "*", 56 PF5 (ADC5/TMS) "*", 57 PF4 (ADC4/TCK) "*", 58 PF3 (ADC3)  "*", 59 PF2 (ADC2) "*", 60 PF1 (ADC1) "*", 61 PF0 (ADC0) "*", 62 AREF "*", 63 GND "*", 64 AVCC "*"
text: AT90USB646(7); -AU

## AT90USB1286(7)-AU
designator DD?, comment AT90USB1286-AU  (value not drawn)
Микроконтроллер 8-Бит   AVR   16МГц   128КБ Flash   с USB контроллером [TQFP-64]
footprint TQFP-64
pins: 1 (INT.6/AIN.0) PE6 "*", 2 (INT.7/AIN.1/UVcon) PE7  "*", 3 UVcc "*", 4 D- "*", 5 D+ "*", 6 UGnd "*", 7 UCap "*", 8 Vbus "*", 9 (IUID) PE3 "*", 10 (SS/PCINT0) PB0 "*", 11 (PCINT1/SCLK) PB1 "*", 12 (PDI/PCINT2/MOSI) PB2 "*", 13 (PDO/PCINT3/MISO) PB3 "*", 14 (PCINT4/OC.2A) PB4 "*", 15 (PCINT5/OC.1A) PB5 "*", 16 (PCINT6/OC.1B) PB6 "*", 17 (PCINT7/OC.0A/OC.1C) PB7 "*", 18 (INT4/TOSC1) PE4 "*", 19 (INT.5/TOSC2) PE5 "*", 20  RESET "*", 21 VCC "*", 22 GND "*", 23 XTAL2 "*", 24 XTAL1 "*", 25 (OC0B/SCL/INT0) PD0 "*", 26 (OC2B/SDA/INT1) PD1 "*", 27 (RXD1/INT2) PD2 "*", 28 (TXD1/INT3) PD3 "*", 29 (ICP1) PD4  "*", 30 (XCK1) PD5 "*", 31 (T1) PD6 "*", 32 (T0) PD7 "*", 33 PE0 (WR) "*", 34 PE1 (RD) "*", 35 PC0 (A8) "*", 36 PC1 (A9) "*", 37 PC2 (A10) "*", 38 PC3 (A11/T.3) "*", 39 PC4 (A12/OC.3C) "*", 40 PC5 (A13/OC.3B) "*", 41 PC6 (A14/OC.3A) "*", 42 PC7 (A15/IC.3/CLKO) "*", 43 PE2 (ALE/HWB) "*", 44 PA7 (AD7) "*", 45 PA6 (AD6) "*", 46 PA5 (AD5) "*", 47 PA4 (AD4) "*", 48 PA3 (AD3) "*", 49 PA2 (AD2) "*", 50 PA1 (AD1) "*", 51 PA0 (AD0) "*", 52 VCC "*", 53 GND "*", 54 PF7 (ADC7/TDI) "*", 55 PF6 (ADC6/TDO) "*", 56 PF5 (ADC5/TMS) "*", 57 PF4 (ADC4/TCK) "*", 58 PF3 (ADC3)  "*", 59 PF2 (ADC2) "*", 60 PF1 (ADC1) "*", 61 PF0 (ADC0) "*", 62 AREF "*", 63 GND "*", 64 AVCC "*"
text: AT90USB1286(7); -AU

## AT91SAM7S256D-AU
designator DD?  (value not drawn)
Микроконтроллер   ARM7TDMI   256КБ Flash [LQFP-64]
footprint LQFP-64
pins: 1 ADVREF "*", 2 GND "*", 3 AD4 "*", 4 AD5 "*", 5 AD6 "*", 6 AD7 "*", 7 VDDIN "*", 8 VDDOUT "*", 9 PA17/PGMD5/AD0 "*", 10 PA18/PGMD6/AD1 "*", 11 PA21/PGMD9 "*", 12 VDDCORE "*", 13 PA19/PGMD7/AD2 "*", 14 PA22/PGMD10 "*", 15 PA23/PGMD11 "*", 16 PA20/PGMD8/AD3 "*", 17 GND "*", 18 VDDIO "*", 19 PA16/PGMD4 "*", 20 PA15/PGMD3 "*", 21 PA14/PGMD2 "*", 22 PA13/PGMD1 "*", 23 PA24/PGMD12 "*", 24 VDDCORE "*", 25 PA25/PGMD13 "*", 26 PA26/PGMD14 "*", 27 PA12/PGMD0 "*", 28 PA11/PGMM3 "*", 29 PA10/PGMM2 "*", 30 PA9/PGMM1 "*", 31 PA8/PGMM0 "*", 32 PA7/PGMNVALID "*", 33 TDI "*", 34 PA6/PGMNOE "*", 35 PA5/PGMRDY "*", 36 PA4/PGMNCMD "*", 37 PA27/PGMD15 "*", 38 PA28 "*", 39 NRST "*", 40 TST "*", 41 PA29 "*", 42 PA30 "*", 43 PA3 "*", 44 PA2/PGMEN2 "*", 45 VDDIO "*", 46 GND "*", 47 PA1/PGMEN1 "*", 48 PA0/PGMEN0 "*", 49 TDO "*", 50 JTAGSEL "*", 51 TMS "*", 52 PA31 "*", 53 TCK "*", 54 VDDCORE "*", 55 ERASE "*", 56 DDM "*", 57 DDP "*", 58 VDDIO "*", 59 VDDFLASH "*", 60 GND "*", 61 XOUT "*", 62 XIN/PGMCK "*", 63 PLLRC "*", 64 VDDPLL "*"
text: AT91SAM7S256D; -AU

## AT91SAM7X256C-AU
designator DD?  (value not drawn)
Микроконтроллер ARM7TDMI   256KB Flash   Ethernet   USB   CAN   [LQFP-100]
footprint LQFP-100
pins: 1 ADVREF "*", 2 GND "*", 3 AD4 "*", 4 AD5 "*", 5 AD6 "*", 6 AD7 "*", 7 VDDOUT "*", 8 VDDIN "*", 9 PB27/AD0 "*", 10 PB28/AD1 "*", 11 PB29/AD2 "*", 12 PB30/AD3 "*", 13 PA8/PGMM0 "*", 14 PA9/PGMM1 "*", 15 VDDCORE "*", 16 GND "*", 17 VDDIO "*", 18 PA10/PGMM2 "*", 19 PA11/PGMM3 "*", 20 PA12/PGMD0 "*", 21 PA13/PGMD1 "*", 22 PA14/PGMD2 "*", 23 PA15/PGMD3 "*", 24 PA16/PGMD4 "*", 25 PA17/PGMD5 "*", 26 PA18/PGMD6 "*", 27 PB9 "*", 28 PB8 "*", 29 PB14 "*", 30 PB13 "*", 31 PB6 "*", 32 GND "*", 33 VDDIO "*", 34 PB5 "*", 35 PB15 "*", 36 PB17 "*", 37 VDDCORE "*", 38 PB7 "*", 39 PB12 "*", 40 PB0 "*", 41 PB1 "*", 42 PB2 "*", 43 PB3 "*", 44 PB10 "*", 45 PB11 "*", 46 PA19/PGMD7 "*", 47 PA20/PGMD8 "*", 48 VDDIO "*", 49 PA21/PGMD9 "*", 50 PA22/PGMD10 "*", 51 TDI "*", 52 GND "*", 53 PB16 "*", 54 PB4 "*", 55 PA23/PGMD11 "*", 56 PA24/PGMD12 "*", 57 NRST "*", 58 TST "*", 59 PA25/PGMD13 "*", 60 PA26/PGMD14 "*", 61 VDDIO "*", 62 VDDCORE "*", 63 PB18 "*", 64 PB19 "*", 65 PB20 "*", 66 PB21 "*", 67 PB22 "*", 68 GND "*", 69 PB23 "*", 70 PB24 "*", 71 PB25 "*", 72 PB26 "*", 73 PA27/PGMD15 "*", 74 PA28 "*", 75 PA29 "*", 76 TDO "*", 77 JTAGSEL "*", 78 TMS "*", 79 TCK "*", 80 PA30 "*", 81 PA0/PGMEN0 "*", 82 PA1/PGMEN1 "*", 83 GND "*", 84 VDDIO "*", 85 PA3 "*", 86 PA2 "*", 87 VDDCORE "*", 88 PA4/PGMNCMD "*", 89 PA5/PGMRDY "*", 90 PA6/PGMNOE "*", 91 PA7/PGMNVALID "*", 92 ERASE "*", 93 DDM "*", 94 DDP "*", 95 VDDFLASH "*", 96 GND "*", 97 XIN/PGMCK "*", 98 XOUT "*", 99  PLLRC "*", 100 VDDPLL "*"
text: AT91SAM7X256C; -AU

## ATmega16-16AU
designator DD?  (value not drawn)
Микроконтроллер 8-Бит   AVR   16МГц   16КБ Flash [TQFP-44]
footprint TQFP-44
pins: 1 (MOSI) PB5 "*", 2 (MISO) PB6 "*", 3 (SCK) PB7 "*", 4 RESET "*", 5 VCC "*", 6 GND "*", 7 XTAL2 "*", 8 XTAL1 "*", 9 (RXD) PD0 "*", 10 (TXD) PD1 "*", 11 (INT0) PD2 "*", 12 (INT1) PD3 "*", 13 (OC1B) PD4 "*", 14 (OC1A) PD5 "*", 15 (ICP1) PD6 "*", 16 (OC2) PD7 "*", 17 VCC "*", 18 GND "*", 19 (SCL) PC0 "*", 20 (SDA) PC1 "*", 21 (TCK) PC2 "*", 22 (TMS) PC3 "*", 23 PC4 (TDO) "*", 24 PC5 (TDI) "*", 25 PC6 (TOSC1) "*", 26 PC7 (TOSC2) "*", 27 AVCC "*", 28 GND "*", 29 AREF "*", 30 PA7 (ADC7) "*", 31 PA6 (ADC6) "*", 32 PA5 (ADC5) "*", 33 PA4 (ADC4) "*", 34 PA3 (ADC3) "*", 35 PA2 (ADC2) "*", 36 PA1 (ADC1) "*", 37 PA0 (ADC0) "*", 38 VCC "*", 39 GND "*", 40 PB0 (XCK/T0) "*", 41 PB1 (T1)  "*", 42 PB2 (AIN0/INT2) "*", 43 PB3 (AIN1/OC0) "*", 44 PB4 (SS) "*"
text: ATmega16; -16AU

## ATmega16-16PU
designator DD?  (value not drawn)
Микроконтроллер 8-Бит   AVR   16МГц   16КБ Flash [DIP-40]
footprint DIP-40  (600)
pins: 1 (XCK/T0) PB0 "*", 2 (T1) PB1 "*", 3 (INT2/AIN0) PB2 "*", 4 (OC0/AIN1) PB3 "*", 5 (SS) PB4 "*", 6 (MOSI) PB5 "*", 7 (MISO) PB6 "*", 8 (SCK) PB7 "*", 9 RESET "*", 10 VCC "*", 11 GND "*", 12 XTAL2 "*", 13 XTAL1 "*", 14 (RXD) PD0 "*", 15 (TXD) PD1 "*", 16 (INT0) PD2 "*", 17 (INT1) PD3 "*", 18 (OC1B) PD4 "*", 19 (OC1A) PD5 "*", 20 (ICP1) PD6 "*", 21 PD7 (OC2) "*", 22 PC0 (SCL) "*", 23 PC1 (SDA) "*", 24 PC2 (TCK) "*", 25 PC3 (TMS) "*", 26 PC4 (TDO) "*", 27 PC5 (TDI) "*", 28 PC6 (TOSC1) "*", 29 PC7 (TOSC2) "*", 30 AVCC "*", 31 GND "*", 32 AREF "*", 33 PA7 (ADC7) "*", 34 PA6 (ADC6) "*", 35 PA5 (ADC5) "*", 36 PA4 (ADC4) "*", 37 PA3 (ADC3) "*", 38 PA2 (ADC2) "*", 39 PA1 (ADC1) "*", 40 PA0 (ADC0) "*"

## ATmega16A-AU
designator DD?  (value not drawn)
Микроконтроллер 8-Бит   AVR   16МГц   16КБ Flash [TQFP-44]
footprint TQFP-44
pins: 1 (MOSI) PB5 "*", 2 (MISO) PB6  "*", 3 (SCK) PB7 "*", 4 RESET "*", 5 VCC "*", 6 GND "*", 7 XTAL2 "*", 8 XTAL1 "*", 9 (RXD) PD0 "*", 10 (TXD) PD1 "*", 11 (INT0) PD2 "*", 12 (INT1) PD3 "*", 13 (OC1B) PD4 "*", 14 (OC1A) PD5 "*", 15 (ICP1) PD6 "*", 16 (OC2) PD7 "*", 17 VCC "*", 18 GND "*", 19 (SCL) PC0 "*", 20 (SDA) PC1 "*", 21 (TCK) PC2 "*", 22 (TMS) PC3 "*", 23 PC4 (TDO) "*", 24 PC5 (TDI) "*", 25 PC6 (TOSC1) "*", 26 PC7 (TOSC2) "*", 27 AVCC "*", 28 GND "*", 29 AREF "*", 30 PA7 (ADC7) "*", 31 PA6 (ADC6) "*", 32 PA5 (ADC5) "*", 33 PA4 (ADC4) "*", 34 PA3 (ADC3) "*", 35 PA2 (ADC2) "*", 36 PA1 (ADC1) "*", 37 PA0 (ADC0) "*", 38 VCC "*", 39 GND "*", 40 PB0 (XCK/T0) "*", 41 PB1 (T1)  "*", 42 PB2 (AIN0/INT2) "*", 43 PB3 (AIN1/OC0) "*", 44 PB4 (SS) "*"
text: ATmega16A; -AU

## ATmega16A-PU
designator DD?  (value not drawn)
Микроконтроллер 8-Бит   AVR   16МГц   16КБ Flash [DIP-40]
footprint DIP-40  (600)
pins: 1 (XCK/T0) PB0 "*", 2 (T1) PB1 "*", 3 (INT2/AIN0) PB2 "*", 4 (OC0/AIN1) PB3 "*", 5 (SS) PB4 "*", 6 (MOSI) PB5 "*", 7 (MISO) PB6 "*", 8 (SCK) PB7 "*", 9 RESET "*", 10 VCC "*", 11 GND "*", 12 XTAL2 "*", 13 XTAL1 "*", 14 (RXD) PD0 "*", 15 (TXD) PD1 "*", 16 (INT0) PD2 "*", 17 (INT1) PD3 "*", 18 (OC1B) PD4 "*", 19 (OC1A) PD5 "*", 20 (ICP1) PD6 "*", 21 PD7 (OC2) "*", 22 PC0 (SCL) "*", 23 PC1 (SDA) "*", 24 PC2 (TCK) "*", 25 PC3 (TMS) "*", 26 PC4 (TDO) "*", 27 PC5 (TDI) "*", 28 PC6 (TOSC1) "*", 29 PC7 (TOSC2) "*", 30 AVCC "*", 31 GND "*", 32 AREF "*", 33 PA7 (ADC7) "*", 34 PA6 (ADC6) "*", 35 PA5 (ADC5) "*", 36 PA4 (ADC4) "*", 37 PA3 (ADC3) "*", 38 PA2 (ADC2) "*", 39 PA1 (ADC1) "*", 40 PA0 (ADC0) "*"

## ATmega16L-8AU
designator DD?  (value not drawn)
Микроконтроллер 8-Бит   AVR   8МГц   16КБ Flash [TQFP-44]
footprint TQFP-44
pins: 1 (MOSI) PB5 "*", 2 (MISO) PB6 "*", 3 (SCK) PB7 "*", 4 RESET "*", 5 VCC "*", 6 GND "*", 7 XTAL2 "*", 8 XTAL1 "*", 9 (RXD) PD0 "*", 10 (TXD) PD1 "*", 11 (INT0) PD2 "*", 12 (INT1) PD3 "*", 13 (OC1B) PD4 "*", 14 (OC1A) PD5 "*", 15 (ICP1) PD6 "*", 16 (OC2) PD7 "*", 17 VCC "*", 18 GND "*", 19 (SCL) PC0 "*", 20 (SDA) PC1 "*", 21 (TCK) PC2 "*", 22 (TMS) PC3 "*", 23 PC4 (TDO) "*", 24 PC5 (TDI) "*", 25 PC6 (TOSC1) "*", 26 PC7 (TOSC2) "*", 27 AVCC "*", 28 GND "*", 29 AREF "*", 30 PA7 (ADC7) "*", 31 PA6 (ADC6) "*", 32 PA5 (ADC5) "*", 33 PA4 (ADC4) "*", 34 PA3 (ADC3)  "*", 35 PA2 (ADC2) "*", 36 PA1 (ADC1) "*", 37 PA0 (ADC0) "*", 38 VCC "*", 39 GND "*", 40 PB0 (XCK/T0)  "*", 41 PB1 (T1) "*", 42 PB2 (AIN0/INT2) "*", 43 PB3 (AIN1/OC0) "*", 44 PB4 (SS)  "*"
text: ATmega16L; -8AU

## ATmega16L-8PU
designator DD?  (value not drawn)
Микроконтроллер 8-Бит   AVR   8МГц   16КБ Flash [DIP-40]
footprint DIP-40  (600)
pins: 1 (XCK/T0) PB0 "*", 2 (T1) PB1 "*", 3 (INT2/AIN0) PB2 "*", 4 (OC0/AIN1) PB3  "*", 5 (SS) PB4 "*", 6 (MOSI) PB5 "*", 7 (MISO) PB6 "*", 8 (SCK) PB7 "*", 9 RESET "*", 10 VCC "*", 11 GND "*", 12 XTAL2 "*", 13 XTAL1 "*", 14 (RXD) PD0 "*", 15 (TXD) PD1  "*", 16 (INT0) PD2 "*", 17 (INT1) PD3 "*", 18 (OC1B) PD4  "*", 19 (OC1A) PD5 "*", 20 (ICP1) PD6 "*", 21 PD7 (OC2) "*", 22 PC0 (SCL) "*", 23 PC1 (SDA) "*", 24 PC2 (TCK) "*", 25 PC3 (TMS) "*", 26 PC4 (TDO) "*", 27 PC5 (TDI) "*", 28 PC6 (TOSC1) "*", 29 PC7 (TOSC2) "*", 30 AVCC "*", 31 GND "*", 32 AREF "*", 33 PA7 (ADC7) "*", 34 PA6 (ADC6) "*", 35 PA5 (ADC5) "*", 36 PA4 (ADC4) "*", 37 PA3 (ADC3) "*", 38 PA2 (ADC2) "*", 39 PA1 (ADC1) "*", 40 PA0 (ADC0) "*"

## ATmega16U4-AU
designator DD?  (value not drawn)
Микроконтроллер 8-Бит   AVR   16МГц   16КБ Flash   с USB контроллером [TQFP-44]
footprint TQFP-44
pins: 1 (INT.6/AIN0) PE6 "*", 2 UVcc "*", 3 D- "*", 4 D+ "*", 5 UGnd "*", 6 UCap "*", 7 VBus "*", 8 (SS/PCINT0) PB0 "*", 9 (PCINT1/SCLK) PB1 "*", 10 (PDI/PCINT2/MOSI) PB2 "*", 11 (PDO/PCINT3/MISO) PB3 "*", 12 (PCINT7/OC0A/OC1C/RTS) PB7 "*", 13 RESET "*", 14 VCC "*", 15 GND "*", 16 XTAL2 "*", 17 XTAL1 "*", 18 (OC0B/SCL/INT0) PD0  "*", 19 (SDA/INT1) PD1 "*", 20 (RXD1/INT2) PD2 "*", 21 (TXD1/INT3) PD3 "*", 22 (XCK1/CTS) PD5 "*", 23 GND "*", 24 AVCC "*", 25 PD4 (ICP1/ADC8) "*", 26 PD6 (T1/OC4D/ADC9) "*", 27 PD7 (T0/OC4D/ADC10) "*", 28 PB4 (PCINT4/ADC11) "*", 29 PB5 (PCINT5/OC1A/OC4B/ADC "*", 30 PB6 (PCINT6/OC1B/OC4B/ADC "*", 31 PC6 (OC3A/OC4A "*", 32 PC7 (ICP3/CLK0/OC4A "*", 33 PE2 (HWB) "*", 34 VCC "*", 35 GND "*", 36 PF7 (ADC7/TDI) "*", 37 PF6 (ADC6/TDO) "*", 38 PF5 (ADC5/TMS) "*", 39 PF4 (ADC4/TCK) "*", 40 PF1 (ADC1)  "*", 41 PF0 (ADC0) "*", 42 AREF "*", 43 GND "*", 44 AVCC "*"
text: ATmega16U4; -AU

## ATmega128-16AU
designator DD?  (value not drawn)
Микроконтроллер 8-Бит   AVR   16МГц   128КБ Flash [TQFP-64]
footprint TQFP-64
pins: 1 PEN "*", 2 RXD0/(PDI) PE0 "*", 3 (TXD0/PDO) PE1 "*", 4 (XCK0/AIN0) PE2  "*", 5 (OC3A/AIN1) PE3 "*", 6 (OC3B/INT4) PE4 "*", 7 (OC3C/INT5) PE5 "*", 8 (T3/INT6) PE6 "*", 9 (ICP3/INT7) PE7 "*", 10 (SS) PB0 "*", 11 (SCK) PB1 "*", 12 (MOSI) PB2 "*", 13 (MISO) PB3 "*", 14 (OC0) PB4 "*", 15 (OC1A) PB5 "*", 16 (OC1B) PB6 "*", 17 (OC2/OC1C) PB7 "*", 18 TOSC2/PG3 "*", 19 TOSC1/PG4 "*", 20 RESET "*", 21 VCC "*", 22 GND "*", 23 XTAL2 "*", 24 XTAL1 "*", 25 (SCL/INT0) PD0 "*", 26 (SDA/INT1) PD1 "*", 27 (RXD1/INT2) PD2 "*", 28 (TXD1/INT3) PD3 "*", 29 (ICP1) PD4 "*", 30 (XCK1) PD5 "*", 31 (T1) PD6 "*", 32 (T2) PD7 "*", 33 PG0(WR) "*", 34 PG1(RD) "*", 35 PC0 (A8)  "*", 36 PC1 (A9) "*", 37 PC2 (A10) "*", 38 PC3 (A11)  "*", 39 PC4 (A12) "*", 40 PC5 (A13) "*", 41 PC6 (A14) "*", 42 PC7 (A15) "*", 43 PG2(ALE) "*", 44 PA7 (AD7) "*", 45 PA6 (AD6) "*", 46 PA5 (AD5) "*", 47 PA4 (AD4) "*", 48 PA3 (AD3) "*", 49 PA2 (AD2) "*", 50 PA1 (AD1) "*", 51 PA0 (AD0) "*", 52 VCC "*", 53 GND "*", 54 PF7 (ADC7/TDI) "*", 55 PF6 (ADC6/TDO) "*", 56 PF5 (ADC5/TMS) "*", 57 PF4 (ADC4/TCK)  "*", 58 PF3 (ADC3) "*", 59 PF2 (ADC2) "*", 60 PF1 (ADC1)  "*", 61 PF0 (ADC0) "*", 62 AREF "*", 63 GND "*", 64 AVCC "*"
text: ATmega128; -16AU

## ATmega128A-AU
designator DD?  (value not drawn)
Микроконтроллер 8-Бит   AVR   16МГц   128КБ Flash [TQFP-64]
footprint TQFP-64
pins: 1 PEN "*", 2 RXD0/(PDI) PE0 "*", 3 (TXD0/PDO) PE1 "*", 4 (XCK0/AIN0) PE2  "*", 5 (OC3A/AIN1) PE3 "*", 6 (OC3B/INT4) PE4 "*", 7 (OC3C/INT5) PE5 "*", 8 (T3/INT6) PE6 "*", 9 (ICP3/INT7) PE7 "*", 10 (SS) PB0 "*", 11 (SCK) PB1 "*", 12 (MOSI) PB2 "*", 13 (MISO) PB3 "*", 14 (OC0) PB4 "*", 15 (OC1A) PB5 "*", 16 (OC1B) PB6 "*", 17 (OC2/OC1C) PB7 "*", 18 TOSC2/PG3 "*", 19 TOSC1/PG4 "*", 20 RESET "*", 21 VCC "*", 22 GND "*", 23 XTAL2 "*", 24 XTAL1 "*", 25 (SCL/INT0) PD0 "*", 26 (SDA/INT1) PD1 "*", 27 (RXD1/INT2) PD2 "*", 28 (TXD1/INT3) PD3 "*", 29 (ICP1) PD4 "*", 30 (XCK1) PD5 "*", 31 (T1) PD6 "*", 32 (T2) PD7 "*", 33 PG0(WR) "*", 34 PG1(RD) "*", 35 PC0 (A8)  "*", 36 PC1 (A9) "*", 37 PC2 (A10) "*", 38 PC3 (A11)  "*", 39 PC4 (A12) "*", 40 PC5 (A13) "*", 41 PC6 (A14) "*", 42 PC7 (A15) "*", 43 PG2(ALE) "*", 44 PA7 (AD7) "*", 45 PA6 (AD6) "*", 46 PA5 (AD5) "*", 47 PA4 (AD4) "*", 48 PA3 (AD3) "*", 49 PA2 (AD2) "*", 50 PA1 (AD1) "*", 51 PA0 (AD0) "*", 52 VCC "*", 53 GND "*", 54 PF7 (ADC7/TDI) "*", 55 PF6 (ADC6/TDO) "*", 56 PF5 (ADC5/TMS) "*", 57 PF4 (ADC4/TCK)  "*", 58 PF3 (ADC3) "*", 59 PF2 (ADC2) "*", 60 PF1 (ADC1)  "*", 61 PF0 (ADC0) "*", 62 AREF "*", 63 GND "*", 64 AVCC "*"
text: ATmega128A; -AU

## ATmega162-16AU
designator DD?  (value not drawn)
Микроконтроллер 8-Бит   AVR   16МГц   16КБ Flash [TQFP-44]
footprint TQFP-44
pins: 1 (MOSI) PB5 "*", 2 (MISO) PB6 "*", 3 (SCK) PB7 "*", 4 RESET "*", 5 (RXD0) PD0 "*", 6 VCC "*", 7 (TXD0) PD1 "*", 8 (INT0/XCK1) PD2 "*", 9 (INT1/ICP3) PD3 "*", 10 (TOSC1/XCK0/OC3A) PD4 "*", 11 (OC1A/TOSC2) PD5 "*", 12 (WR) PD6 "*", 13 (RD) PD7 "*", 14 XTAL2 "*", 15 XTAL1 "*", 16 GND "*", 17 VCC "*", 18 (A8/PCINT8) PC0 "*", 19 (A9/PCINT9) PC1 "*", 20 (A10/PCINT10) PC2 "*", 21 (A11/PCINT11) PC3 "*", 22 (TCK/A12/PCINT12) PC4 "*", 23 PC5 (A13/TMS/PCINT13) "*", 24 PC6 (A14/TDO/PCINT14) "*", 25 PC7 (A15/TDI/PCINT15) "*", 26 PE2 (OC1B) "*", 27 PE1 (ALE) "*", 28 GND "*", 29 PE0 (ICP1/INT2) "*", 30 PA7 (AD7/PCINT7) "*", 31 PA6 (AD6/PCINT6) "*", 32 PA5 (AD5/PCINT5) "*", 33 PA4 (AD4/PCINT4) "*", 34 PA3 (AD3/PCINT3) "*", 35 PA2 (AD2/PCINT2) "*", 36 PA1 (AD1/PCINT1) "*", 37 PA0 (AD0/PCINT0) "*", 38 VCC "*", 39 GND "*", 40 PB0 (OC0/T0) "*", 41 PB1 (OC2/T1) "*", 42 PB2 (RXD1/AIN0) "*", 43 PB3 (TXD1/AIN1) "*", 44 PB4 (SS/OC3B) "*"
text: ATmega162; -16AU

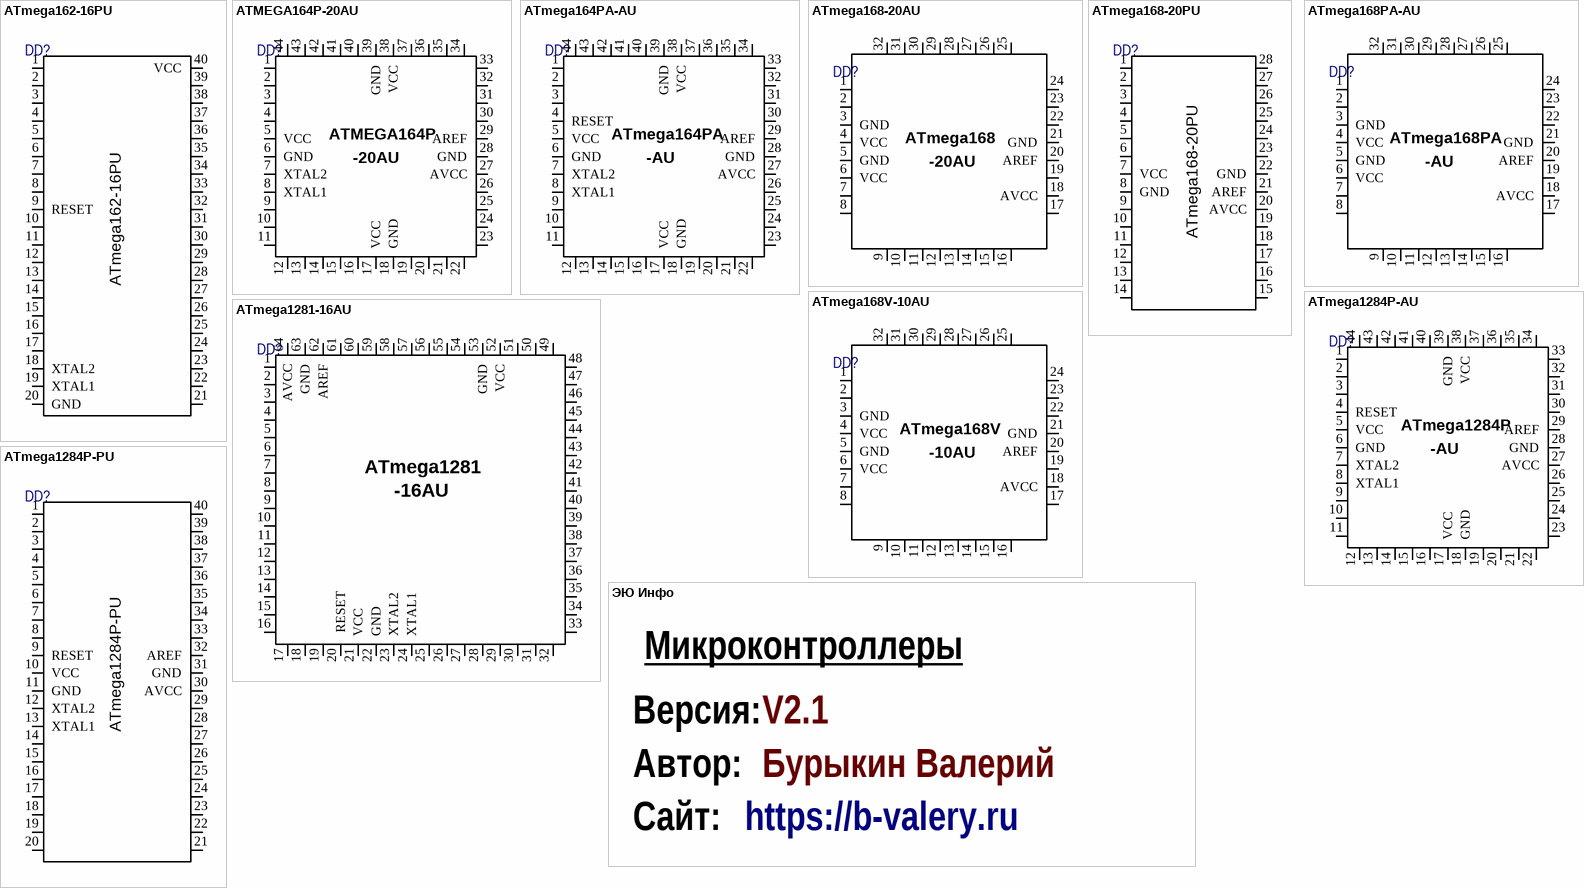
[diagram p2: symbols ATmega162-16PU to ЭЮ Инфо]

## ATmega162-16PU
designator DD?  (value not drawn)
Микроконтроллер 8-Бит   AVR   16МГц   16КБ Flash [DIP-40]
footprint DIP-40  (600)
pins: 1 (OC0/T0) PB0 "*", 2 (OC2/T1) PB1 "*", 3 (RXD1/AIN0) PB2 "*", 4 (TXD1/AIN1) PB3 "*", 5 (SS/OC3B) PB4 "*", 6 (MOSI) PB5 "*", 7 (MISO) PB6 "*", 8 (SCK) PB7 "*", 9 RESET "*", 10 (RXD0) PD0 "*", 11 (TXD0) PD1 "*", 12 (INT0/XCK1) PD2 "*", 13 (INT1/ICP3) PD3 "*", 14 (TOSC1/XCK0/OC3A) PD4  "*", 15 (OC1A/TOSC2) PD5 "*", 16 (WR) PD6 "*", 17 (RD) PD7 "*", 18 XTAL2 "*", 19 XTAL1 "*", 20 GND "*", 21 PC0 (A8/PCINT8) "*", 22 PC1 (A9/PCINT9) "*", 23 PC2 (A10/PCINT10) "*", 24 PC3 (A11/PCINT11) "*", 25 PC4 (A12/TCK/PCINT12) "*", 26 PC5 (A13/TMS/PCINT13) "*", 27 PC6 (A14/TDO/PCINT14) "*", 28 PC7 (A15/TDI/PCINT15) "*", 29 PE2 (OC1B) "*", 30 PE1 (ALE) "*", 31 PE0 (ICP1/INT2) "*", 32 PA7 (AD7/PCINT7) "*", 33 PA6 (AD6/PCINT6) "*", 34 PA5 (AD5/PCINT5) "*", 35 PA4 (AD4/PCINT4) "*", 36 PA3 (AD3/PCINT3) "*", 37 PA2 (AD2/PCINT2) "*", 38 PA1 (AD1/PCINT1) "*", 39 PA0 (AD0/PCINT0) "*", 40 VCC "*"

## ATMEGA164P-20AU
designator DD?  (value not drawn)
Микроконтроллер 8-бит picoPower AVR   16КБ Flash [TQFP-44]
footprint TQFP-44
pins: 1 (PCINT13/MOSI) PB5 "*", 2 (PCINT14/MISO) PB6 "*", 3 (PCINT15/SCK) PB7 "*", 4 RESET "*", 5 VCC "*", 6 GND "*", 7 XTAL2 "*", 8 XTAL1 "*", 9 (PCINT24/RXD0) PD0 "*", 10 (PCINT25/TXD0) PD1 "*", 11 (PCINT26/RXD1/INT0) PD2 "*", 12 (PCINT27/TXD1/INT1) PD3 "*", 13 (PCINT28/XCK1/OC1B) PD4 "*", 14 (PCINT29/OC1A) PD5 "*", 15 (PCINT30/OC2B/ICP1) PD6 "*", 16 (PCINT31/OC2A) PD7 "*", 17 VCC "*", 18 GND "*", 19 (PCINT16/SCL) PC0  "*", 20 (PCINT17/SDA) PC1 "*", 21 (PCINT18/TCK) PC2 "*", 22 (PCINT19/TMS) PC3 "*", 23 PC4 (TDO/PCINT20) "*", 24 PC5 (TDI/PCINT21) "*", 25 PC6 (TOSC1/PCINT22) "*", 26 PC7 (TOSC2/PCINT23) "*", 27 AVCC "*", 28 GND "*", 29 AREF "*", 30 PA7 (ADC7/PCINT7) "*", 31 PA6 (ADC6/PCINT6)  "*", 32 PA5 (ADC5/PCINT5) "*", 33 PA4 (ADC4/PCINT4) "*", 34 PA3 (ADC3/PCINT3) "*", 35 PA2 (ADC2/PCINT2) "*", 36 PA1 (ADC1/PCINT1) "*", 37 PA0 (ADC0/PCINT0) "*", 38 VCC "*", 39 GND "*", 40 PB0 (XCK0/T0/PCINT8) "*", 41 PB1 (T1/CLKO/PCINT9) "*", 42 PB2 (AIN0/INT2/PCINT10) "*", 43 PB3 (AIN1/OC0A/PCINT11) "*", 44 PB4 (SS/OC0B/PCINT12) "*"
text: ATMEGA164P; -20AU

## ATmega164PA-AU
designator DD?  (value not drawn)
Микроконтроллер 8-Бит   picoPower   AVR   16КБ Flash [TQFP-44]
footprint TQFP-44
pins: 1 (PCINT13/MOSI) PB5 "*", 2 (PCINT14/MISO) PB6 "*", 3 (PCINT15/SCK) PB7 "*", 4 RESET "*", 5 VCC "*", 6 GND "*", 7 XTAL2 "*", 8 XTAL1 "*", 9 (PCINT24/RXD0) PD0 "*", 10 (PCINT25/TXD0) PD1 "*", 11 (PCINT26/RXD1/INT0) PD2 "*", 12 (PCINT27/TXD1/INT1) PD3 "*", 13 (PCINT28/XCK1/OC1B) PD4 "*", 14 (PCINT29/OC1A) PD5 "*", 15 (PCINT30/OC2B/ICP1) PD6 "*", 16 (PCINT31/OC2A) PD7 "*", 17 VCC "*", 18 GND "*", 19 (PCINT16/SCL) PC0 "*", 20 (PCINT17/SDA) PC1 "*", 21 (PCINT18/TCK) PC2 "*", 22 (PCINT19/TMS) PC3 "*", 23 PC4 (TDO/PCINT20) "*", 24 PC5 (TDI/PCINT21) "*", 25 PC6 (TOSC1/PCINT22)  "*", 26 PC7 (TOSC2/PCINT23)  "*", 27 AVCC "*", 28 GND "*", 29 AREF "*", 30 PA7 (ADC7/PCINT7)  "*", 31 PA6 (ADC6/PCINT6)  "*", 32 PA5 (ADC5/PCINT5) "*", 33 PA4 (ADC4/PCINT4) "*", 34 PA3 (ADC3/PCINT3) "*", 35 PA2 (ADC2/PCINT2) "*", 36 PA1 (ADC1/PCINT1) "*", 37 PA0 (ADC0/PCINT0) "*", 38 VCC "*", 39 GND "*", 40 PB0 (XCK0/T0/PCINT8) "*", 41 PB1 (T1/CLKO/PCINT9)  "*", 42 PB2 (AIN0/INT2/PCINT10) "*", 43 PB3 (AIN1/OC0A/PCINT11) "*", 44 PB4 (SS/OC0B/PCINT12) "*"
text: ATmega164PA; -AU

## ATmega168-20AU
designator DD?  (value not drawn)
Микроконтроллер 8-Бит   AVR   20МГц   16КБ Flash
footprint TQFP-32
pins: 1 (PCINT19/OC2B/INT1) PD3 "*", 2 (PCINT20/XCK/T0) PD4 "*", 3 GND "*", 4 VCC "*", 5 GND "*", 6 VCC "*", 7 (PCINT6/XTAL1/TOSC1) PB6 "*", 8 (PCINT7/XTAL2/TOSC2) PB7 "*", 9 (PCINT21/OC0B/T1) PD5  "*", 10 (PCINT22/OC0A/AIN0) PD6 "*", 11 (PCINT23/AIN1) PD7 "*", 12 (PCINT0/CLKO/ICP1) PB0 "*", 13 (PCINT1/OC1A) PB1 "*", 14 (PCINT2/SS/OC1B) PB2 "*", 15 (PCINT3/OC2A/MOSI) PB3 "*", 16 (PCINT4/MISO) PB4 "*", 17 PB5 (SCK/PCINT5)  "*", 18 AVCC "*", 19 ADC6 "*", 20 AREF "*", 21 GND "*", 22 ADC7 "*", 23 PC0 (ADC0/PCINT8) "*", 24 PC1 (ADC1/PCINT9) "*", 25 PC2 (ADC2/PCINT10) "*", 26 PC3 (ADC3/PCINT11) "*", 27 PC4 (ADC4/SDA/PCINT12) "*", 28 PC5 (ADC5/SCL/PCINT13) "*", 29 PC6 (RESET/PCINT14) "*", 30 PD0 (RXD/PCINT16) "*", 31 PD1 (TXD/PCINT17) "*", 32 PD2 (INT0/PCINT18) "*"
text: ATmega168; -20AU

## ATmega168-20PU
designator DD?  (value not drawn)
Микроконтроллер 8-Бит   AVR   20МГц   16КБ Flash [DIP-28]
footprint DIP-28  (300)
pins: 1 (PCINT14/RESET) PC6 "*", 2 (PCINT16/RXD) PD0 "*", 3 (PCINT17/TXD) PD1 "*", 4 (PCINT18/INT0) PD2 "*", 5 (PCINT19/OC2B/INT1) PD3 "*", 6 (PCINT20/XCK/T0) PD4 "*", 7 VCC "*", 8 GND "*", 9 (PCINT6/XTAL1/TOSC1) PB6 "*", 10 (PCINT7/XTAL2/TOSC2) PB7 "*", 11 (PCINT21/OC0B/T1) PD5 "*", 12 (PCINT22/OC0A/AIN0) PD6 "*", 13 (PCINT23/AIN1) PD7 "*", 14 (PCINT0/CLKO/ICP1) PB0 "*", 15 PB1 (OC1A/PCINT1)  "*", 16 PB2 (SS/OC1B/PCINT2)  "*", 17 PB3 (MOSI/OC2A/PCINT3)  "*", 18 PB4 (MISO/PCINT4)  "*", 19 PB5 (SCK/PCINT5)  "*", 20 AVCC "*", 21 AREF "*", 22 GND "*", 23 PC0 (ADC0/PCINT8) "*", 24 PC1 (ADC1/PCINT9) "*", 25 PC2 (ADC2/PCINT10)  "*", 26 PC3 (ADC3/PCINT11)  "*", 27 PC4 (ADC4/SDA/PCINT12) "*", 28 PC5 (ADC5/SCL/PCINT13) "*"

## ATmega168PA-AU
designator DD?  (value not drawn)
Микроконтроллер 8-Бит   picoPower   AVR   20МГц   16КБ Flash [TQFP-32]
footprint TQFP-32
pins: 1 (PCINT19/OC2B/INT1) PD3 "*", 2 (PCINT20/XCK/T0) PD4 "*", 3 GND "*", 4 VCC "*", 5 GND "*", 6 VCC "*", 7 (PCINT6/XTAL1/TOSC1) PB6 "*", 8 (PCINT7/XTAL2/TOSC2) PB7 "*", 9 (PCINT21/OC0B/T1) PD5  "*", 10 (PCINT22/OC0A/AIN0) PD6 "*", 11 (PCINT23/AIN1) PD7 "*", 12 (PCINT0/CLKO/ICP1) PB0 "*", 13 (PCINT1/OC1A) PB1 "*", 14 (PCINT2/SS/OC1B) PB2 "*", 15 (PCINT3/OC2A/MOSI) PB3  "*", 16 (PCINT4/MISO) PB4  "*", 17 PB5 (SCK/PCINT5)  "*", 18 AVCC "*", 19 ADC6 "*", 20 AREF "*", 21 GND "*", 22 ADC7 "*", 23 PC0 (ADC0/PCINT8) "*", 24 PC1 (ADC1/PCINT9) "*", 25 PC2 (ADC2/PCINT10) "*", 26 PC3 (ADC3/PCINT11) "*", 27 PC4 (ADC4/SDA/PCINT12) "*", 28 PC5 (ADC5/SCL/PCINT13) "*", 29 PC6 (RESET/PCINT14) "*", 30 PD0 (RXD/PCINT16) "*", 31 PD1 (TXD/PCINT17) "*", 32 PD2 (INT0/PCINT18) "*"
text: ATmega168PA; -AU

## ATmega168V-10AU
designator DD?  (value not drawn)
Микроконтроллер 8-Бит   AVR   10МГц   16КБ Flash [TQFP-32]
footprint TQFP-32
pins: 1 (PCINT19/OC2B/INT1) PD3 "*", 2 (PCINT20/XCK/T0) PD4 "*", 3 GND "*", 4 VCC "*", 5 GND "*", 6 VCC "*", 7 (PCINT6/XTAL1/TOSC1) PB6 "*", 8 (PCINT7/XTAL2/TOSC2) PB7 "*", 9 (PCINT21/OC0B/T1) PD5  "*", 10 (PCINT22/OC0A/AIN0) PD6 "*", 11 (PCINT23/AIN1) PD7 "*", 12 (PCINT0/CLKO/ICP1) PB0 "*", 13 (PCINT1/OC1A) PB1 "*", 14 (PCINT2/SS/OC1B) PB2 "*", 15 (PCINT3/OC2A/MOSI) PB3 "*", 16 (PCINT4/MISO) PB4  "*", 17 PB5 (SCK/PCINT5) "*", 18 AVCC "*", 19 ADC6 "*", 20 AREF "*", 21 GND "*", 22 ADC7 "*", 23 PC0 (ADC0/PCINT8) "*", 24 PC1 (ADC1/PCINT9) "*", 25 PC2 (ADC2/PCINT10) "*", 26 PC3 (ADC3/PCINT11) "*", 27 PC4 (ADC4/SDA/PCINT12) "*", 28 PC5 (ADC5/SCL/PCINT13) "*", 29 PC6 (RESET/PCINT14) "*", 30 PD0 (RXD/PCINT16) "*", 31 PD1 (TXD/PCINT17) "*", 32 PD2 (INT0/PCINT18) "*"
text: ATmega168V; -10AU

## ATmega1281-16AU
designator DD?  (value not drawn)
Микроконтроллер 8-Бит   AVR   16МГц   128КБ Flash [TQFP-64]
footprint TQFP-64
pins: 1 (OC0B) PG5 "*", 2 (RXD0/PCINT8/PDI) PE0 "*", 3 (TXD0/PDO) PE1  "*", 4 (XCK0/AIN0) PE2 "*", 5 (OC3A/AIN1) PE3 "*", 6 (OC3B/INT4) PE4 "*", 7 (OC3C/INT5) PE5 "*", 8 (T3/INT6) PE6 "*", 9 (ICP3/CLKO/INT7) PE7 "*", 10 (SS/PCINT0) PB0 "*", 11 (SCK/PCINT1) PB1 "*", 12 (MOSI/PCINT2) PB2 "*", 13 (MISO/PCINT3) PB3  "*", 14 (OC2A/ PCINT4) PB4 "*", 15 (OC1A/PCINT5) PB5 "*", 16 (OC1B/PCINT6) PB6 "*", 17 (OC0A/OC1C/PCINT7) PB7 "*", 18 (TOSC2) PG3 "*", 19 (TOSC1) PG4 "*", 20  RESET "*", 21 VCC "*", 22 GND "*", 23 XTAL2 "*", 24 XTAL1 "*", 25 (SCL/INT0) PD0  "*", 26 (SDA/INT1) PD1 "*", 27 (RXD1/INT2) PD2 "*", 28 (TXD1/INT3) PD3 "*", 29 (ICP1) PD4 "*", 30 (XCK1) PD5 "*", 31 (T1) PD6 "*", 32 (T0) PD7 "*", 33 PG0 (WR) "*", 34 PG1 (RD) "*", 35 PC0 (A8) "*", 36 PC1 (A9) "*", 37 PC2 (A10) "*", 38 PC3 (A11) "*", 39 PC4 (A12) "*", 40 PC5 (A13) "*", 41 PC6 (A14) "*", 42 PC7 (A15) "*", 43 PG2 (ALE) "*", 44 PA7 (AD7) "*", 45 PA6 (AD6) "*", 46 PA5 (AD5) "*", 47 PA4 (AD4) "*", 48 PA3 (AD3) "*", 49 PA2 (AD2) "*", 50 PA1 (AD1) "*", 51 PA0 (AD0) "*", 52 VCC "*", 53 GND "*", 54 PF7 (ADC7/TDI) "*", 55 PF6 (ADC6/TDO) "*", 56 PF5 (ADC5/TMS) "*", 57 PF4 (ADC4/TCK) "*", 58 PF3 (ADC3)  "*", 59 PF2 (ADC2) "*", 60 PF1 (ADC1)  "*", 61 PF0 (ADC0) "*", 62 AREF "*", 63 GND "*", 64 AVCC "*"
text: ATmega1281; -16AU

## ATmega1284P-AU
designator DD?  (value not drawn)
Микроконтроллер 8-бит   AVR   20МГц   128КБ Flash [TQFP-44]
footprint TQFP-44
pins: 1 (PCINT13/ICP3/MOSI) PB5 "*", 2 (PCINT14/OC3A/MISO) PB6 "*", 3 (PCINT15/OC3B/SCK) PB7 "*", 4 RESET "*", 5 VCC "*", 6 GND "*", 7 XTAL2 "*", 8 XTAL1 "*", 9 (PCINT24/RXD0/T3*) PD0 "*", 10 (PCINT25/TXD0) PD1  "*", 11 (PCINT26/RXD1/INT0) PD2 "*", 12 (PCINT27/TXD1/INT1) PD3 "*", 13 (PCINT28/XCK1/OC1B) PD4 "*", 14 (PCINT29/OC1A) PD5 "*", 15 (PCINT30/OC2B/ICP) PD6 "*", 16 (PCINT31/OC2A) PD7 "*", 17 VCC "*", 18 GND "*", 19 (PCINT16/SCL) PC0 "*", 20 (PCINT17/SDA) PC1  "*", 21 (PCINT18/TCK) PC2 "*", 22 (PCINT19/TMS) PC3  "*", 23 PC4 (TDO/PCINT20) "*", 24 PC5 (TDI/PCINT21) "*", 25 PC6 (TOSC1/PCINT22) "*", 26 PC7 (TOSC2/PCINT23) "*", 27 AVCC "*", 28 GND "*", 29 AREF "*", 30 PA7 (ADC7/PCINT7) "*", 31 PA6 (ADC6/PCINT6) "*", 32 PA5 (ADC5/PCINT5) "*", 33 PA4 (ADC4/PCINT4) "*", 34 PA3 (ADC3/PCINT3) "*", 35 PA2 (ADC2/PCINT2) "*", 36 PA1 (ADC1/PCINT1) "*", 37 PA0 (ADC0/PCINT0)  "*", 38 VCC "*", 39 GND "*", 40 PB0 (XCK0/T0/PCINT8) "*", 41 PB1 (T1/CLKO/PCINT9) "*", 42 PB2 (AIN0/INT2/PCINT10) "*", 43 PB3 (AIN1/OC0A/PCINT11) "*", 44 PB4 (SS/OC0B/PCINT12)  "*"
text: ATmega1284P; -AU

## ATmega1284P-PU
designator DD?  (value not drawn)
Микроконтроллер 8-Бит   AVR   20МГц   128КБ Flash [DIP-40]
footprint DIP-40  (600)
pins: 1 (PCINT8/XCK0/T0) PB0 "*", 2 (PCINT9/CLKO/T1) PB1  "*", 3 (PCINT10/INT2/AIN0) PB2 "*", 4 (PCINT11/OC0A/AIN1) PB3 "*", 5 (PCINT12/OC0B/SS) PB4 "*", 6 (PCINT13/ICP3/MOSI) PB5 "*", 7 (PCINT14/OC3A/MISO) PB6 "*", 8 (PCINT15/OC3B/SCK) PB7 "*", 9 RESET "*", 10 VCC "*", 11 GND "*", 12 XTAL2 "*", 13 XTAL1 "*", 14 (PCINT24/RXD0/T3*) PD0 "*", 15 (PCINT25/TXD0) PD1 "*", 16 (PCINT26/RXD1/INT0) PD2 "*", 17 (PCINT27/TXD1/INT1) PD3 "*", 18 (PCINT28/XCK1/OC1B) PD4 "*", 19 (PCINT29/OC1A) PD5 "*", 20 (PCINT30/OC2B/ICP) PD6 "*", 21 PD7 (OC2A/PCINT31) "*", 22 PC0 (SCL/PCINT16) "*", 23 PC1 (SDA/PCINT17) "*", 24 PC2 (TCK/PCINT18) "*", 25 PC3 (TMS/PCINT19) "*", 26 PC4 (TDO/PCINT20) "*", 27 PC5 (TDI/PCINT21) "*", 28 PC6 (TOSC1/PCINT22) "*", 29 PC7 (TOSC2/PCINT23) "*", 30 AVCC "*", 31 GND "*", 32 AREF "*", 33 PA7 (ADC7/PCINT7) "*", 34 PA6 (ADC6/PCINT6) "*", 35 PA5 (ADC5/PCINT5) "*", 36 PA4 (ADC4/PCINT4) "*", 37 PA3 (ADC3/PCINT3) "*", 38 PA2 (ADC2/PCINT2) "*", 39 PA1 (ADC1/PCINT1) "*", 40 PA0 (ADC0/PCINT0) "*"

## ЭЮ Инфо
designator *  (value not drawn)
text: Микроконтроллеры; Версия:; V2.1; Автор:; Бурыкин Валерий; Сайт:; https://b-valery.ru